# Altium integrated library Altera MAX V.IntLib: 184 symbols (part 2 of 16)
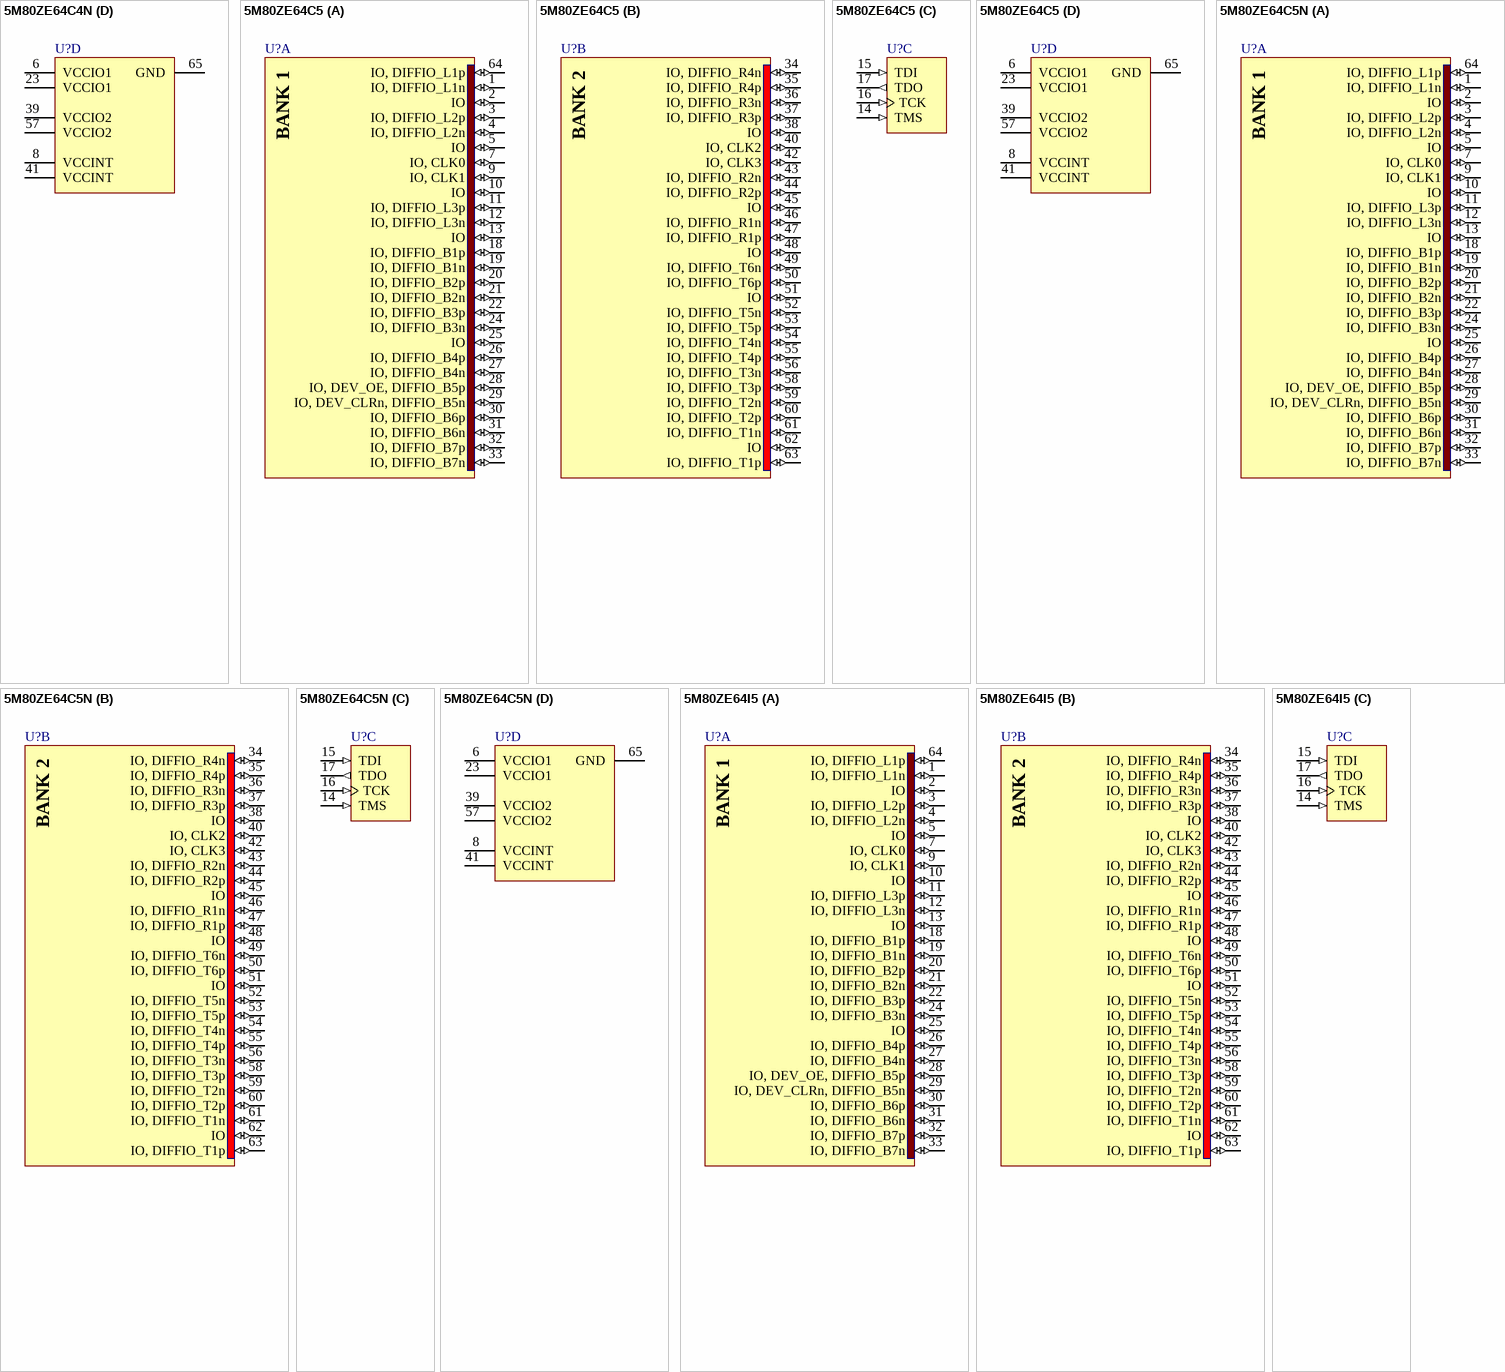
[diagram p78: symbols 5M80ZE64C4N to 5M80ZE64I5]

## 5M80ZE64C5
designator U?
MAX V 1.8V CPLD, 54 IOs, 80 Logic Elements, 64-Pin EQFP, Commercial Temperature, Speed Grade 5; DatasheetVersion: ver1.2, May-2011; PackageVersion: ver1.0, Jul-2011; PackageReference: EQFP64_A-120_D2-45; PackageDescription: 64-Pin Plastic Enhanced Quad Flat (EQFP) - Wire Bond - A:1.20 - D2:4.5; Code_JEDEC: MS-026-ABD-HD; ComponentLink1Description: Manufacturer URL; ComponentLink1URL: http://www.altera.com/; ComponentLink2Description: Datasheet; ComponentLink2URL: http://www.altera.com/literature/hb/max-v/max5_handbook.pdf; ComponentLink3Description: MAX V Device Pin-Out files; ComponentLink3URL: http://www.altera.com/literature/lit-dp.jsp?category=MAX%205&showspreadsheet=y; ComponentLink4Description: Package Specification; ComponentLink4URL: http://www.altera.com/devicepackaging/04R00384-01.pdf
footprint EQFP64_A-120_D2-45_N (Thin QFP, 64-Leads, Body 7x7mm, Pitch 0.4mm, Thermal Pad, IPC Medium Density)
footprint EQFP64_A-120_D2-45_L (Thin QFP, 64-Leads, Body 7x7mm, Pitch 0.4mm, Thermal Pad, IPC High Density)
footprint EQFP64_A-120_D2-45_M (Thin QFP, 64-Leads, Body 7x7mm, Pitch 0.4mm, Thermal Pad, IPC Low Density)
part A pins: 1 IO, DIFFIO_L1n (io), 2 IO (io), 3 IO, DIFFIO_L2p (io), 4 IO, DIFFIO_L2n (io), 5 IO (io), 7 IO, CLK0 (io), 9 IO, CLK1 (io), 10 IO (io), 11 IO, DIFFIO_L3p (io), 12 IO, DIFFIO_L3n (io), 13 IO (io), 18 IO, DIFFIO_B1p (io), 19 IO, DIFFIO_B1n (io), 20 IO, DIFFIO_B2p (io), 21 IO, DIFFIO_B2n (io), 22 IO, DIFFIO_B3p (io), 24 IO, DIFFIO_B3n (io), 25 IO (io), 26 IO, DIFFIO_B4p (io), 27 IO, DIFFIO_B4n (io), 28 IO, DEV_OE, DIFFIO_B5p (io), 29 IO, DEV_CLRn, DIFFIO_B5n (io), 30 IO, DIFFIO_B6p (io), 31 IO, DIFFIO_B6n (io), 32 IO, DIFFIO_B7p (io), 33 IO, DIFFIO_B7n (io), 64 IO, DIFFIO_L1p (io)
part B pins: 34 IO, DIFFIO_R4n (io), 35 IO, DIFFIO_R4p (io), 36 IO, DIFFIO_R3n (io), 37 IO, DIFFIO_R3p (io), 38 IO (io), 40 IO, CLK2 (io), 42 IO, CLK3 (io), 43 IO, DIFFIO_R2n (io), 44 IO, DIFFIO_R2p (io), 45 IO (io), 46 IO, DIFFIO_R1n (io), 47 IO, DIFFIO_R1p (io), 48 IO (io), 49 IO, DIFFIO_T6n (io), 50 IO, DIFFIO_T6p (io), 51 IO (io), 52 IO, DIFFIO_T5n (io), 53 IO, DIFFIO_T5p (io), 54 IO, DIFFIO_T4n (io), 55 IO, DIFFIO_T4p (io), 56 IO, DIFFIO_T3n (io), 58 IO, DIFFIO_T3p (io), 59 IO, DIFFIO_T2n (io), 60 IO, DIFFIO_T2p (io), 61 IO, DIFFIO_T1n (io), 62 IO (io), 63 IO, DIFFIO_T1p (io)
part C pins: 14 TMS (in), 15 TDI (in), 16 TCK (in), 17 TDO (out)
part D pins: 6 VCCIO1 (power), 8 VCCINT (power), 23 VCCIO1 (power), 39 VCCIO2 (power), 41 VCCINT (power), 57 VCCIO2 (power), 65 GND (power)
part A text: BANK 1
part B text: BANK 2

## 5M80ZE64C5N
designator U?
MAX V 1.8V CPLD, 54 IOs, 80 Logic Elements, 64-Pin EQFP, Commercial Temperature, Speed Grade 5, Pb-Free; DatasheetVersion: ver1.2, May-2011; PackageVersion: ver1.0, Jul-2011; PackageReference: EQFP64_A-120_D2-45; PackageDescription: 64-Pin Plastic Enhanced Quad Flat (EQFP) - Wire Bond - A:1.20 - D2:4.5; Code_JEDEC: MS-026-ABD-HD; ComponentLink1Description: Manufacturer URL; ComponentLink1URL: http://www.altera.com/; ComponentLink2Description: Datasheet; ComponentLink2URL: http://www.altera.com/literature/hb/max-v/max5_handbook.pdf; ComponentLink3Description: MAX V Device Pin-Out files; ComponentLink3URL: http://www.altera.com/literature/lit-dp.jsp?category=MAX%205&showspreadsheet=y; ComponentLink4Description: Package Specification; ComponentLink4URL: http://www.altera.com/devicepackaging/04R00384-01.pdf
footprint EQFP64_A-120_D2-45_N (Thin QFP, 64-Leads, Body 7x7mm, Pitch 0.4mm, Thermal Pad, IPC Medium Density)
footprint EQFP64_A-120_D2-45_L (Thin QFP, 64-Leads, Body 7x7mm, Pitch 0.4mm, Thermal Pad, IPC High Density)
footprint EQFP64_A-120_D2-45_M (Thin QFP, 64-Leads, Body 7x7mm, Pitch 0.4mm, Thermal Pad, IPC Low Density)
part A pins: 1 IO, DIFFIO_L1n (io), 2 IO (io), 3 IO, DIFFIO_L2p (io), 4 IO, DIFFIO_L2n (io), 5 IO (io), 7 IO, CLK0 (io), 9 IO, CLK1 (io), 10 IO (io), 11 IO, DIFFIO_L3p (io), 12 IO, DIFFIO_L3n (io), 13 IO (io), 18 IO, DIFFIO_B1p (io), 19 IO, DIFFIO_B1n (io), 20 IO, DIFFIO_B2p (io), 21 IO, DIFFIO_B2n (io), 22 IO, DIFFIO_B3p (io), 24 IO, DIFFIO_B3n (io), 25 IO (io), 26 IO, DIFFIO_B4p (io), 27 IO, DIFFIO_B4n (io), 28 IO, DEV_OE, DIFFIO_B5p (io), 29 IO, DEV_CLRn, DIFFIO_B5n (io), 30 IO, DIFFIO_B6p (io), 31 IO, DIFFIO_B6n (io), 32 IO, DIFFIO_B7p (io), 33 IO, DIFFIO_B7n (io), 64 IO, DIFFIO_L1p (io)
part B pins: 34 IO, DIFFIO_R4n (io), 35 IO, DIFFIO_R4p (io), 36 IO, DIFFIO_R3n (io), 37 IO, DIFFIO_R3p (io), 38 IO (io), 40 IO, CLK2 (io), 42 IO, CLK3 (io), 43 IO, DIFFIO_R2n (io), 44 IO, DIFFIO_R2p (io), 45 IO (io), 46 IO, DIFFIO_R1n (io), 47 IO, DIFFIO_R1p (io), 48 IO (io), 49 IO, DIFFIO_T6n (io), 50 IO, DIFFIO_T6p (io), 51 IO (io), 52 IO, DIFFIO_T5n (io), 53 IO, DIFFIO_T5p (io), 54 IO, DIFFIO_T4n (io), 55 IO, DIFFIO_T4p (io), 56 IO, DIFFIO_T3n (io), 58 IO, DIFFIO_T3p (io), 59 IO, DIFFIO_T2n (io), 60 IO, DIFFIO_T2p (io), 61 IO, DIFFIO_T1n (io), 62 IO (io), 63 IO, DIFFIO_T1p (io)
part C pins: 14 TMS (in), 15 TDI (in), 16 TCK (in), 17 TDO (out)
part D pins: 6 VCCIO1 (power), 8 VCCINT (power), 23 VCCIO1 (power), 39 VCCIO2 (power), 41 VCCINT (power), 57 VCCIO2 (power), 65 GND (power)
part A text: BANK 1
part B text: BANK 2

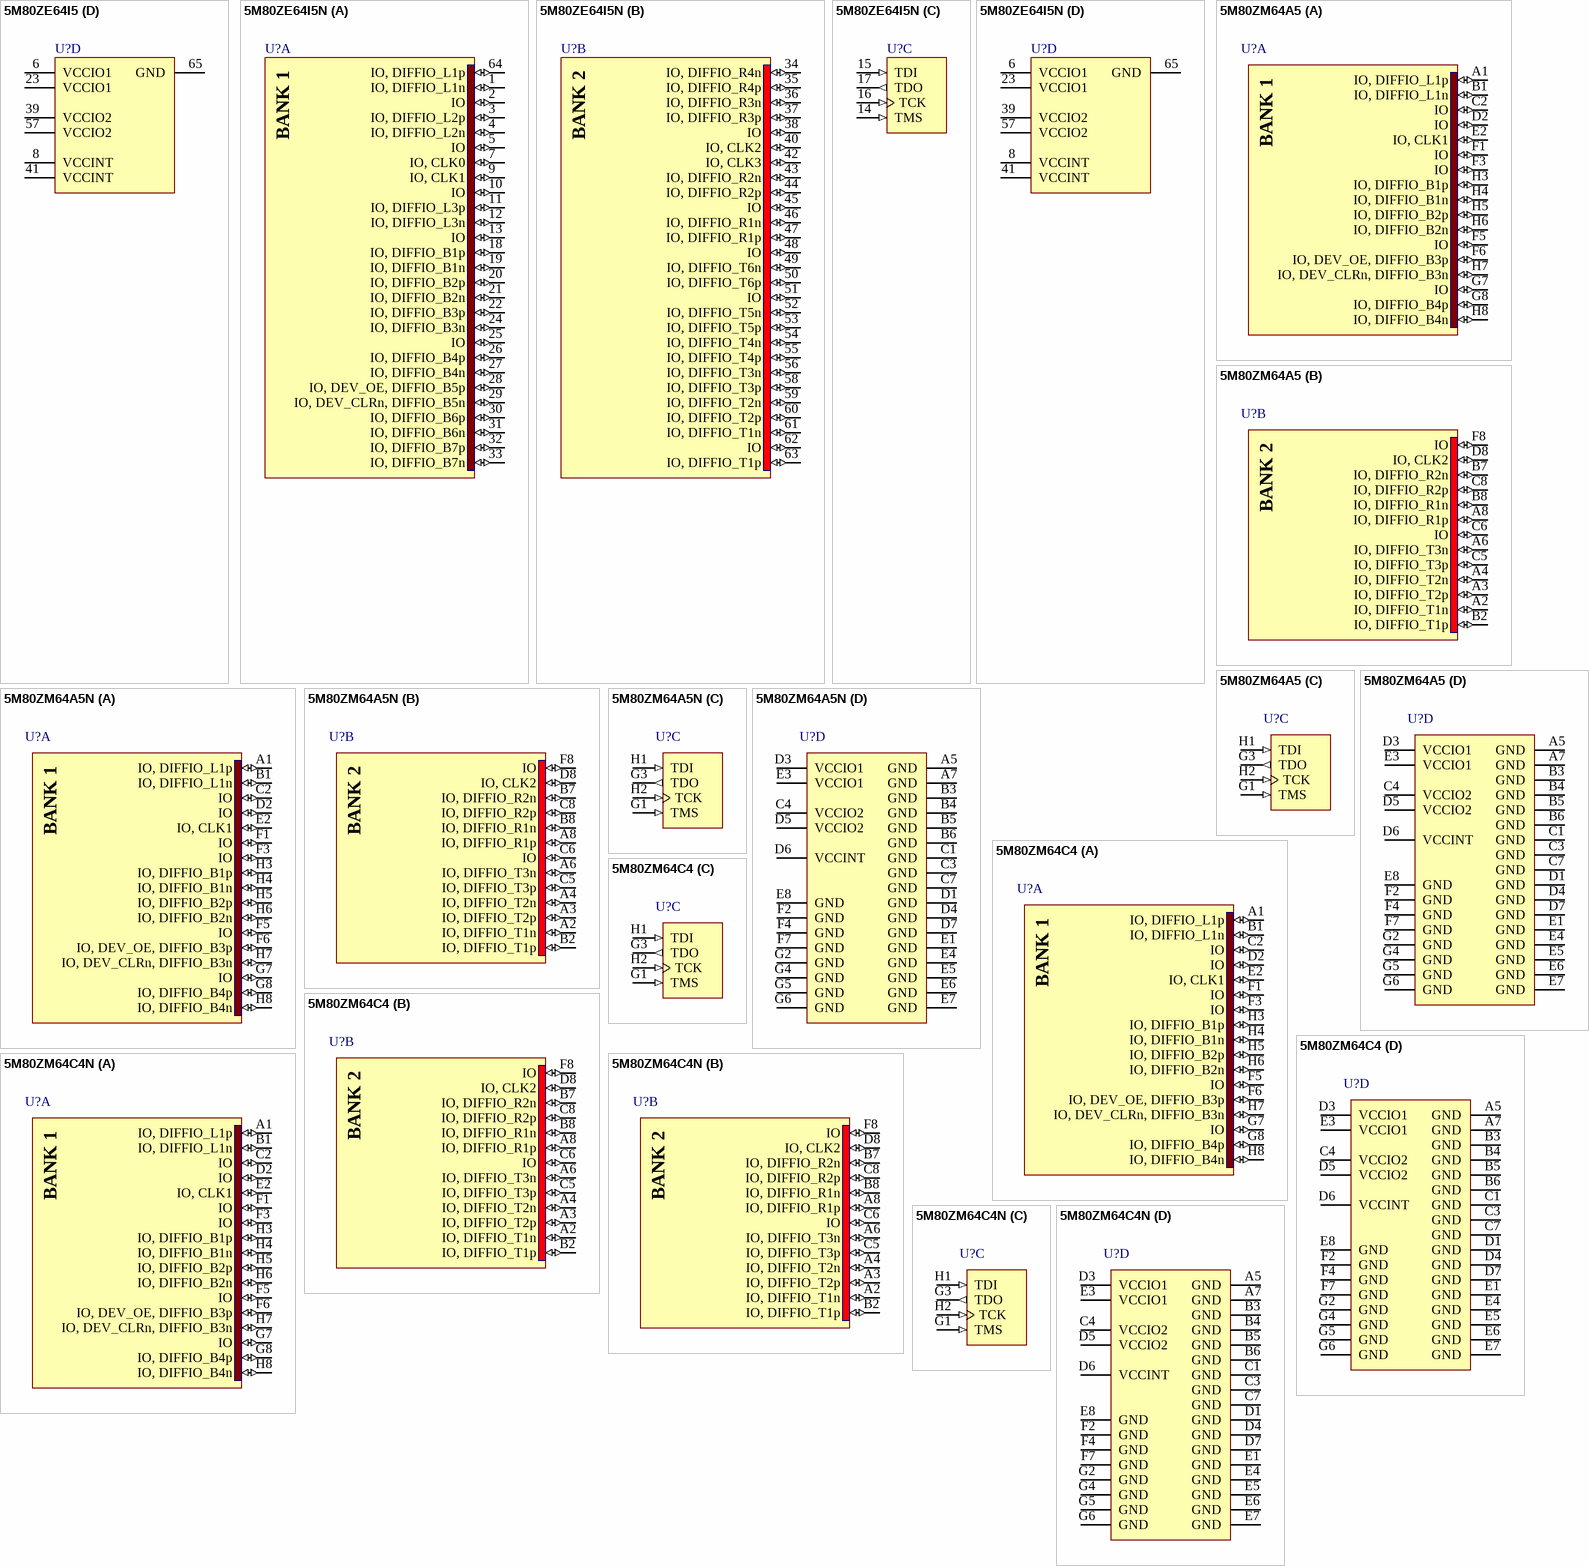
[diagram p5: symbols 5M80ZE64I5 to 5M80ZM64C4N]

## 5M80ZE64I5
designator U?
MAX V 1.8V CPLD, 54 IOs, 80 Logic Elements, 64-Pin EQFP, Industrial Temperature, Speed Grade 5; DatasheetVersion: ver1.2, May-2011; PackageVersion: ver1.0, Jul-2011; PackageReference: EQFP64_A-120_D2-45; PackageDescription: 64-Pin Plastic Enhanced Quad Flat (EQFP) - Wire Bond - A:1.20 - D2:4.5; Code_JEDEC: MS-026-ABD-HD; ComponentLink1Description: Manufacturer URL; ComponentLink1URL: http://www.altera.com/; ComponentLink2Description: Datasheet; ComponentLink2URL: http://www.altera.com/literature/hb/max-v/max5_handbook.pdf; ComponentLink3Description: MAX V Device Pin-Out files; ComponentLink3URL: http://www.altera.com/literature/lit-dp.jsp?category=MAX%205&showspreadsheet=y; ComponentLink4Description: Package Specification; ComponentLink4URL: http://www.altera.com/devicepackaging/04R00384-01.pdf
footprint EQFP64_A-120_D2-45_N (Thin QFP, 64-Leads, Body 7x7mm, Pitch 0.4mm, Thermal Pad, IPC Medium Density)
footprint EQFP64_A-120_D2-45_L (Thin QFP, 64-Leads, Body 7x7mm, Pitch 0.4mm, Thermal Pad, IPC High Density)
footprint EQFP64_A-120_D2-45_M (Thin QFP, 64-Leads, Body 7x7mm, Pitch 0.4mm, Thermal Pad, IPC Low Density)
part A pins: 1 IO, DIFFIO_L1n (io), 2 IO (io), 3 IO, DIFFIO_L2p (io), 4 IO, DIFFIO_L2n (io), 5 IO (io), 7 IO, CLK0 (io), 9 IO, CLK1 (io), 10 IO (io), 11 IO, DIFFIO_L3p (io), 12 IO, DIFFIO_L3n (io), 13 IO (io), 18 IO, DIFFIO_B1p (io), 19 IO, DIFFIO_B1n (io), 20 IO, DIFFIO_B2p (io), 21 IO, DIFFIO_B2n (io), 22 IO, DIFFIO_B3p (io), 24 IO, DIFFIO_B3n (io), 25 IO (io), 26 IO, DIFFIO_B4p (io), 27 IO, DIFFIO_B4n (io), 28 IO, DEV_OE, DIFFIO_B5p (io), 29 IO, DEV_CLRn, DIFFIO_B5n (io), 30 IO, DIFFIO_B6p (io), 31 IO, DIFFIO_B6n (io), 32 IO, DIFFIO_B7p (io), 33 IO, DIFFIO_B7n (io), 64 IO, DIFFIO_L1p (io)
part B pins: 34 IO, DIFFIO_R4n (io), 35 IO, DIFFIO_R4p (io), 36 IO, DIFFIO_R3n (io), 37 IO, DIFFIO_R3p (io), 38 IO (io), 40 IO, CLK2 (io), 42 IO, CLK3 (io), 43 IO, DIFFIO_R2n (io), 44 IO, DIFFIO_R2p (io), 45 IO (io), 46 IO, DIFFIO_R1n (io), 47 IO, DIFFIO_R1p (io), 48 IO (io), 49 IO, DIFFIO_T6n (io), 50 IO, DIFFIO_T6p (io), 51 IO (io), 52 IO, DIFFIO_T5n (io), 53 IO, DIFFIO_T5p (io), 54 IO, DIFFIO_T4n (io), 55 IO, DIFFIO_T4p (io), 56 IO, DIFFIO_T3n (io), 58 IO, DIFFIO_T3p (io), 59 IO, DIFFIO_T2n (io), 60 IO, DIFFIO_T2p (io), 61 IO, DIFFIO_T1n (io), 62 IO (io), 63 IO, DIFFIO_T1p (io)
part C pins: 14 TMS (in), 15 TDI (in), 16 TCK (in), 17 TDO (out)
part D pins: 6 VCCIO1 (power), 8 VCCINT (power), 23 VCCIO1 (power), 39 VCCIO2 (power), 41 VCCINT (power), 57 VCCIO2 (power), 65 GND (power)
part A text: BANK 1
part B text: BANK 2

## 5M80ZE64I5N
designator U?
MAX V 1.8V CPLD, 54 IOs, 80 Logic Elements, 64-Pin EQFP, Industrial Temperature, Speed Grade 5, Pb-Free; DatasheetVersion: ver1.2, May-2011; PackageVersion: ver1.0, Jul-2011; PackageReference: EQFP64_A-120_D2-45; PackageDescription: 64-Pin Plastic Enhanced Quad Flat (EQFP) - Wire Bond - A:1.20 - D2:4.5; Code_JEDEC: MS-026-ABD-HD; ComponentLink1Description: Manufacturer URL; ComponentLink1URL: http://www.altera.com/; ComponentLink2Description: Datasheet; ComponentLink2URL: http://www.altera.com/literature/hb/max-v/max5_handbook.pdf; ComponentLink3Description: MAX V Device Pin-Out files; ComponentLink3URL: http://www.altera.com/literature/lit-dp.jsp?category=MAX%205&showspreadsheet=y; ComponentLink4Description: Package Specification; ComponentLink4URL: http://www.altera.com/devicepackaging/04R00384-01.pdf
footprint EQFP64_A-120_D2-45_N (Thin QFP, 64-Leads, Body 7x7mm, Pitch 0.4mm, Thermal Pad, IPC Medium Density)
footprint EQFP64_A-120_D2-45_L (Thin QFP, 64-Leads, Body 7x7mm, Pitch 0.4mm, Thermal Pad, IPC High Density)
footprint EQFP64_A-120_D2-45_M (Thin QFP, 64-Leads, Body 7x7mm, Pitch 0.4mm, Thermal Pad, IPC Low Density)
part A pins: 1 IO, DIFFIO_L1n (io), 2 IO (io), 3 IO, DIFFIO_L2p (io), 4 IO, DIFFIO_L2n (io), 5 IO (io), 7 IO, CLK0 (io), 9 IO, CLK1 (io), 10 IO (io), 11 IO, DIFFIO_L3p (io), 12 IO, DIFFIO_L3n (io), 13 IO (io), 18 IO, DIFFIO_B1p (io), 19 IO, DIFFIO_B1n (io), 20 IO, DIFFIO_B2p (io), 21 IO, DIFFIO_B2n (io), 22 IO, DIFFIO_B3p (io), 24 IO, DIFFIO_B3n (io), 25 IO (io), 26 IO, DIFFIO_B4p (io), 27 IO, DIFFIO_B4n (io), 28 IO, DEV_OE, DIFFIO_B5p (io), 29 IO, DEV_CLRn, DIFFIO_B5n (io), 30 IO, DIFFIO_B6p (io), 31 IO, DIFFIO_B6n (io), 32 IO, DIFFIO_B7p (io), 33 IO, DIFFIO_B7n (io), 64 IO, DIFFIO_L1p (io)
part B pins: 34 IO, DIFFIO_R4n (io), 35 IO, DIFFIO_R4p (io), 36 IO, DIFFIO_R3n (io), 37 IO, DIFFIO_R3p (io), 38 IO (io), 40 IO, CLK2 (io), 42 IO, CLK3 (io), 43 IO, DIFFIO_R2n (io), 44 IO, DIFFIO_R2p (io), 45 IO (io), 46 IO, DIFFIO_R1n (io), 47 IO, DIFFIO_R1p (io), 48 IO (io), 49 IO, DIFFIO_T6n (io), 50 IO, DIFFIO_T6p (io), 51 IO (io), 52 IO, DIFFIO_T5n (io), 53 IO, DIFFIO_T5p (io), 54 IO, DIFFIO_T4n (io), 55 IO, DIFFIO_T4p (io), 56 IO, DIFFIO_T3n (io), 58 IO, DIFFIO_T3p (io), 59 IO, DIFFIO_T2n (io), 60 IO, DIFFIO_T2p (io), 61 IO, DIFFIO_T1n (io), 62 IO (io), 63 IO, DIFFIO_T1p (io)
part C pins: 14 TMS (in), 15 TDI (in), 16 TCK (in), 17 TDO (out)
part D pins: 6 VCCIO1 (power), 8 VCCINT (power), 23 VCCIO1 (power), 39 VCCIO2 (power), 41 VCCINT (power), 57 VCCIO2 (power), 65 GND (power)
part A text: BANK 1
part B text: BANK 2

## 5M80ZM64A5
designator U?
MAX V 1.8V CPLD, 30 IOs, 80 Logic Elements, 64-Pin MBGA, Automotive Temperature, Speed Grade 5; DatasheetVersion: ver1.2, May-2011; PackageVersion: ver1.0, Jul-2011; PackageReference: MBGA64_A-120; PackageDescription: 64-Pin Micro FineLine Ball-Grid Array (MBGA) - Wire Bond - A:1.20; Code_JEDEC: MO-195-BX; ComponentLink1Description: Manufacturer URL; ComponentLink1URL: http://www.altera.com/; ComponentLink2Description: Datasheet; ComponentLink2URL: http://www.altera.com/literature/hb/max-v/max5_handbook.pdf; ComponentLink3Description: MAX V Device Pin-Out files; ComponentLink3URL: http://www.altera.com/literature/lit-dp.jsp?category=MAX%205&showspreadsheet=y; ComponentLink4Description: Package Specification; ComponentLink4URL: http://www.altera.com/devicepackaging/04R00385-01.pdf
footprint MBGA64_A-120 (BGA, 64-Leads, Body 4.5x4.5mm, Pitch 0.5mm, Non-Solder Mask Defined Pads)
part A pins: A1 IO, DIFFIO_L1p (io), B1 IO, DIFFIO_L1n (io), C2 IO (io), D2 IO (io), E2 IO, CLK1 (io), F1 IO (io), F3 IO (io), F5 IO (io), F6 IO, DEV_OE, DIFFIO_B3p (io), G7 IO (io), G8 IO, DIFFIO_B4p (io), H3 IO, DIFFIO_B1p (io), H4 IO, DIFFIO_B1n (io), H5 IO, DIFFIO_B2p (io), H6 IO, DIFFIO_B2n (io), H7 IO, DEV_CLRn, DIFFIO_B3n (io), H8 IO, DIFFIO_B4n (io)
part B pins: A2 IO, DIFFIO_T1n (io), A3 IO, DIFFIO_T2p (io), A4 IO, DIFFIO_T2n (io), A6 IO, DIFFIO_T3n (io), A8 IO, DIFFIO_R1p (io), B2 IO, DIFFIO_T1p (io), B7 IO, DIFFIO_R2n (io), B8 IO, DIFFIO_R1n (io), C5 IO, DIFFIO_T3p (io), C6 IO (io), C8 IO, DIFFIO_R2p (io), D8 IO, CLK2 (io), F8 IO (io)
part C pins: G1 TMS (in), G3 TDO (out), H1 TDI (in), H2 TCK (in)
part D pins: A5 GND (power), A7 GND (power), B3 GND (power), B4 GND (power), B5 GND (power), B6 GND (power), C1 GND (power), C3 GND (power), C4 VCCIO2 (power), C7 GND (power), D1 GND (power), D3 VCCIO1 (power), D4 GND (power), D5 VCCIO2 (power), D6 VCCINT (power), D7 GND (power), E1 GND (power), E3 VCCIO1 (power), E4 GND (power), E5 GND (power), E6 GND (power), E7 GND (power), E8 GND (power), F2 GND (power), F4 GND (power), F7 GND (power), G2 GND (power), G4 GND (power), G5 GND (power), G6 GND (power)
part A text: BANK 1
part B text: BANK 2

## 5M80ZM64A5N
designator U?
MAX V 1.8V CPLD, 30 IOs, 80 Logic Elements, 64-Pin MBGA, Automotive Temperature, Speed Grade 5, Pb-Free; DatasheetVersion: ver1.2, May-2011; PackageVersion: ver1.0, Jul-2011; PackageReference: MBGA64_A-120; PackageDescription: 64-Pin Micro FineLine Ball-Grid Array (MBGA) - Wire Bond - A:1.20; Code_JEDEC: MO-195-BX; ComponentLink1Description: Manufacturer URL; ComponentLink1URL: http://www.altera.com/; ComponentLink2Description: Datasheet; ComponentLink2URL: http://www.altera.com/literature/hb/max-v/max5_handbook.pdf; ComponentLink3Description: MAX V Device Pin-Out files; ComponentLink3URL: http://www.altera.com/literature/lit-dp.jsp?category=MAX%205&showspreadsheet=y; ComponentLink4Description: Package Specification; ComponentLink4URL: http://www.altera.com/devicepackaging/04R00385-01.pdf
footprint MBGA64_A-120 (BGA, 64-Leads, Body 4.5x4.5mm, Pitch 0.5mm, Non-Solder Mask Defined Pads)
part A pins: A1 IO, DIFFIO_L1p (io), B1 IO, DIFFIO_L1n (io), C2 IO (io), D2 IO (io), E2 IO, CLK1 (io), F1 IO (io), F3 IO (io), F5 IO (io), F6 IO, DEV_OE, DIFFIO_B3p (io), G7 IO (io), G8 IO, DIFFIO_B4p (io), H3 IO, DIFFIO_B1p (io), H4 IO, DIFFIO_B1n (io), H5 IO, DIFFIO_B2p (io), H6 IO, DIFFIO_B2n (io), H7 IO, DEV_CLRn, DIFFIO_B3n (io), H8 IO, DIFFIO_B4n (io)
part B pins: A2 IO, DIFFIO_T1n (io), A3 IO, DIFFIO_T2p (io), A4 IO, DIFFIO_T2n (io), A6 IO, DIFFIO_T3n (io), A8 IO, DIFFIO_R1p (io), B2 IO, DIFFIO_T1p (io), B7 IO, DIFFIO_R2n (io), B8 IO, DIFFIO_R1n (io), C5 IO, DIFFIO_T3p (io), C6 IO (io), C8 IO, DIFFIO_R2p (io), D8 IO, CLK2 (io), F8 IO (io)
part C pins: G1 TMS (in), G3 TDO (out), H1 TDI (in), H2 TCK (in)
part D pins: A5 GND (power), A7 GND (power), B3 GND (power), B4 GND (power), B5 GND (power), B6 GND (power), C1 GND (power), C3 GND (power), C4 VCCIO2 (power), C7 GND (power), D1 GND (power), D3 VCCIO1 (power), D4 GND (power), D5 VCCIO2 (power), D6 VCCINT (power), D7 GND (power), E1 GND (power), E3 VCCIO1 (power), E4 GND (power), E5 GND (power), E6 GND (power), E7 GND (power), E8 GND (power), F2 GND (power), F4 GND (power), F7 GND (power), G2 GND (power), G4 GND (power), G5 GND (power), G6 GND (power)
part A text: BANK 1
part B text: BANK 2

## 5M80ZM64C4
designator U?
MAX V 1.8V CPLD, 30 IOs, 80 Logic Elements, 64-Pin MBGA, Commercial Temperature, Speed Grade 4; DatasheetVersion: ver1.2, May-2011; PackageVersion: ver1.0, Jul-2011; PackageReference: MBGA64_A-120; PackageDescription: 64-Pin Micro FineLine Ball-Grid Array (MBGA) - Wire Bond - A:1.20; Code_JEDEC: MO-195-BX; ComponentLink1Description: Manufacturer URL; ComponentLink1URL: http://www.altera.com/; ComponentLink2Description: Datasheet; ComponentLink2URL: http://www.altera.com/literature/hb/max-v/max5_handbook.pdf; ComponentLink3Description: MAX V Device Pin-Out files; ComponentLink3URL: http://www.altera.com/literature/lit-dp.jsp?category=MAX%205&showspreadsheet=y; ComponentLink4Description: Package Specification; ComponentLink4URL: http://www.altera.com/devicepackaging/04R00385-01.pdf
footprint MBGA64_A-120 (BGA, 64-Leads, Body 4.5x4.5mm, Pitch 0.5mm, Non-Solder Mask Defined Pads)
part A pins: A1 IO, DIFFIO_L1p (io), B1 IO, DIFFIO_L1n (io), C2 IO (io), D2 IO (io), E2 IO, CLK1 (io), F1 IO (io), F3 IO (io), F5 IO (io), F6 IO, DEV_OE, DIFFIO_B3p (io), G7 IO (io), G8 IO, DIFFIO_B4p (io), H3 IO, DIFFIO_B1p (io), H4 IO, DIFFIO_B1n (io), H5 IO, DIFFIO_B2p (io), H6 IO, DIFFIO_B2n (io), H7 IO, DEV_CLRn, DIFFIO_B3n (io), H8 IO, DIFFIO_B4n (io)
part B pins: A2 IO, DIFFIO_T1n (io), A3 IO, DIFFIO_T2p (io), A4 IO, DIFFIO_T2n (io), A6 IO, DIFFIO_T3n (io), A8 IO, DIFFIO_R1p (io), B2 IO, DIFFIO_T1p (io), B7 IO, DIFFIO_R2n (io), B8 IO, DIFFIO_R1n (io), C5 IO, DIFFIO_T3p (io), C6 IO (io), C8 IO, DIFFIO_R2p (io), D8 IO, CLK2 (io), F8 IO (io)
part C pins: G1 TMS (in), G3 TDO (out), H1 TDI (in), H2 TCK (in)
part D pins: A5 GND (power), A7 GND (power), B3 GND (power), B4 GND (power), B5 GND (power), B6 GND (power), C1 GND (power), C3 GND (power), C4 VCCIO2 (power), C7 GND (power), D1 GND (power), D3 VCCIO1 (power), D4 GND (power), D5 VCCIO2 (power), D6 VCCINT (power), D7 GND (power), E1 GND (power), E3 VCCIO1 (power), E4 GND (power), E5 GND (power), E6 GND (power), E7 GND (power), E8 GND (power), F2 GND (power), F4 GND (power), F7 GND (power), G2 GND (power), G4 GND (power), G5 GND (power), G6 GND (power)
part A text: BANK 1
part B text: BANK 2

## 5M80ZM64C4N
designator U?
MAX V 1.8V CPLD, 30 IOs, 80 Logic Elements, 64-Pin MBGA, Commercial Temperature, Speed Grade 4, Pb-Free; DatasheetVersion: ver1.2, May-2011; PackageVersion: ver1.0, Jul-2011; PackageReference: MBGA64_A-120; PackageDescription: 64-Pin Micro FineLine Ball-Grid Array (MBGA) - Wire Bond - A:1.20; Code_JEDEC: MO-195-BX; ComponentLink1Description: Manufacturer URL; ComponentLink1URL: http://www.altera.com/; ComponentLink2Description: Datasheet; ComponentLink2URL: http://www.altera.com/literature/hb/max-v/max5_handbook.pdf; ComponentLink3Description: MAX V Device Pin-Out files; ComponentLink3URL: http://www.altera.com/literature/lit-dp.jsp?category=MAX%205&showspreadsheet=y; ComponentLink4Description: Package Specification; ComponentLink4URL: http://www.altera.com/devicepackaging/04R00385-01.pdf
footprint MBGA64_A-120 (BGA, 64-Leads, Body 4.5x4.5mm, Pitch 0.5mm, Non-Solder Mask Defined Pads)
part A pins: A1 IO, DIFFIO_L1p (io), B1 IO, DIFFIO_L1n (io), C2 IO (io), D2 IO (io), E2 IO, CLK1 (io), F1 IO (io), F3 IO (io), F5 IO (io), F6 IO, DEV_OE, DIFFIO_B3p (io), G7 IO (io), G8 IO, DIFFIO_B4p (io), H3 IO, DIFFIO_B1p (io), H4 IO, DIFFIO_B1n (io), H5 IO, DIFFIO_B2p (io), H6 IO, DIFFIO_B2n (io), H7 IO, DEV_CLRn, DIFFIO_B3n (io), H8 IO, DIFFIO_B4n (io)
part B pins: A2 IO, DIFFIO_T1n (io), A3 IO, DIFFIO_T2p (io), A4 IO, DIFFIO_T2n (io), A6 IO, DIFFIO_T3n (io), A8 IO, DIFFIO_R1p (io), B2 IO, DIFFIO_T1p (io), B7 IO, DIFFIO_R2n (io), B8 IO, DIFFIO_R1n (io), C5 IO, DIFFIO_T3p (io), C6 IO (io), C8 IO, DIFFIO_R2p (io), D8 IO, CLK2 (io), F8 IO (io)
part C pins: G1 TMS (in), G3 TDO (out), H1 TDI (in), H2 TCK (in)
part D pins: A5 GND (power), A7 GND (power), B3 GND (power), B4 GND (power), B5 GND (power), B6 GND (power), C1 GND (power), C3 GND (power), C4 VCCIO2 (power), C7 GND (power), D1 GND (power), D3 VCCIO1 (power), D4 GND (power), D5 VCCIO2 (power), D6 VCCINT (power), D7 GND (power), E1 GND (power), E3 VCCIO1 (power), E4 GND (power), E5 GND (power), E6 GND (power), E7 GND (power), E8 GND (power), F2 GND (power), F4 GND (power), F7 GND (power), G2 GND (power), G4 GND (power), G5 GND (power), G6 GND (power)
part A text: BANK 1
part B text: BANK 2

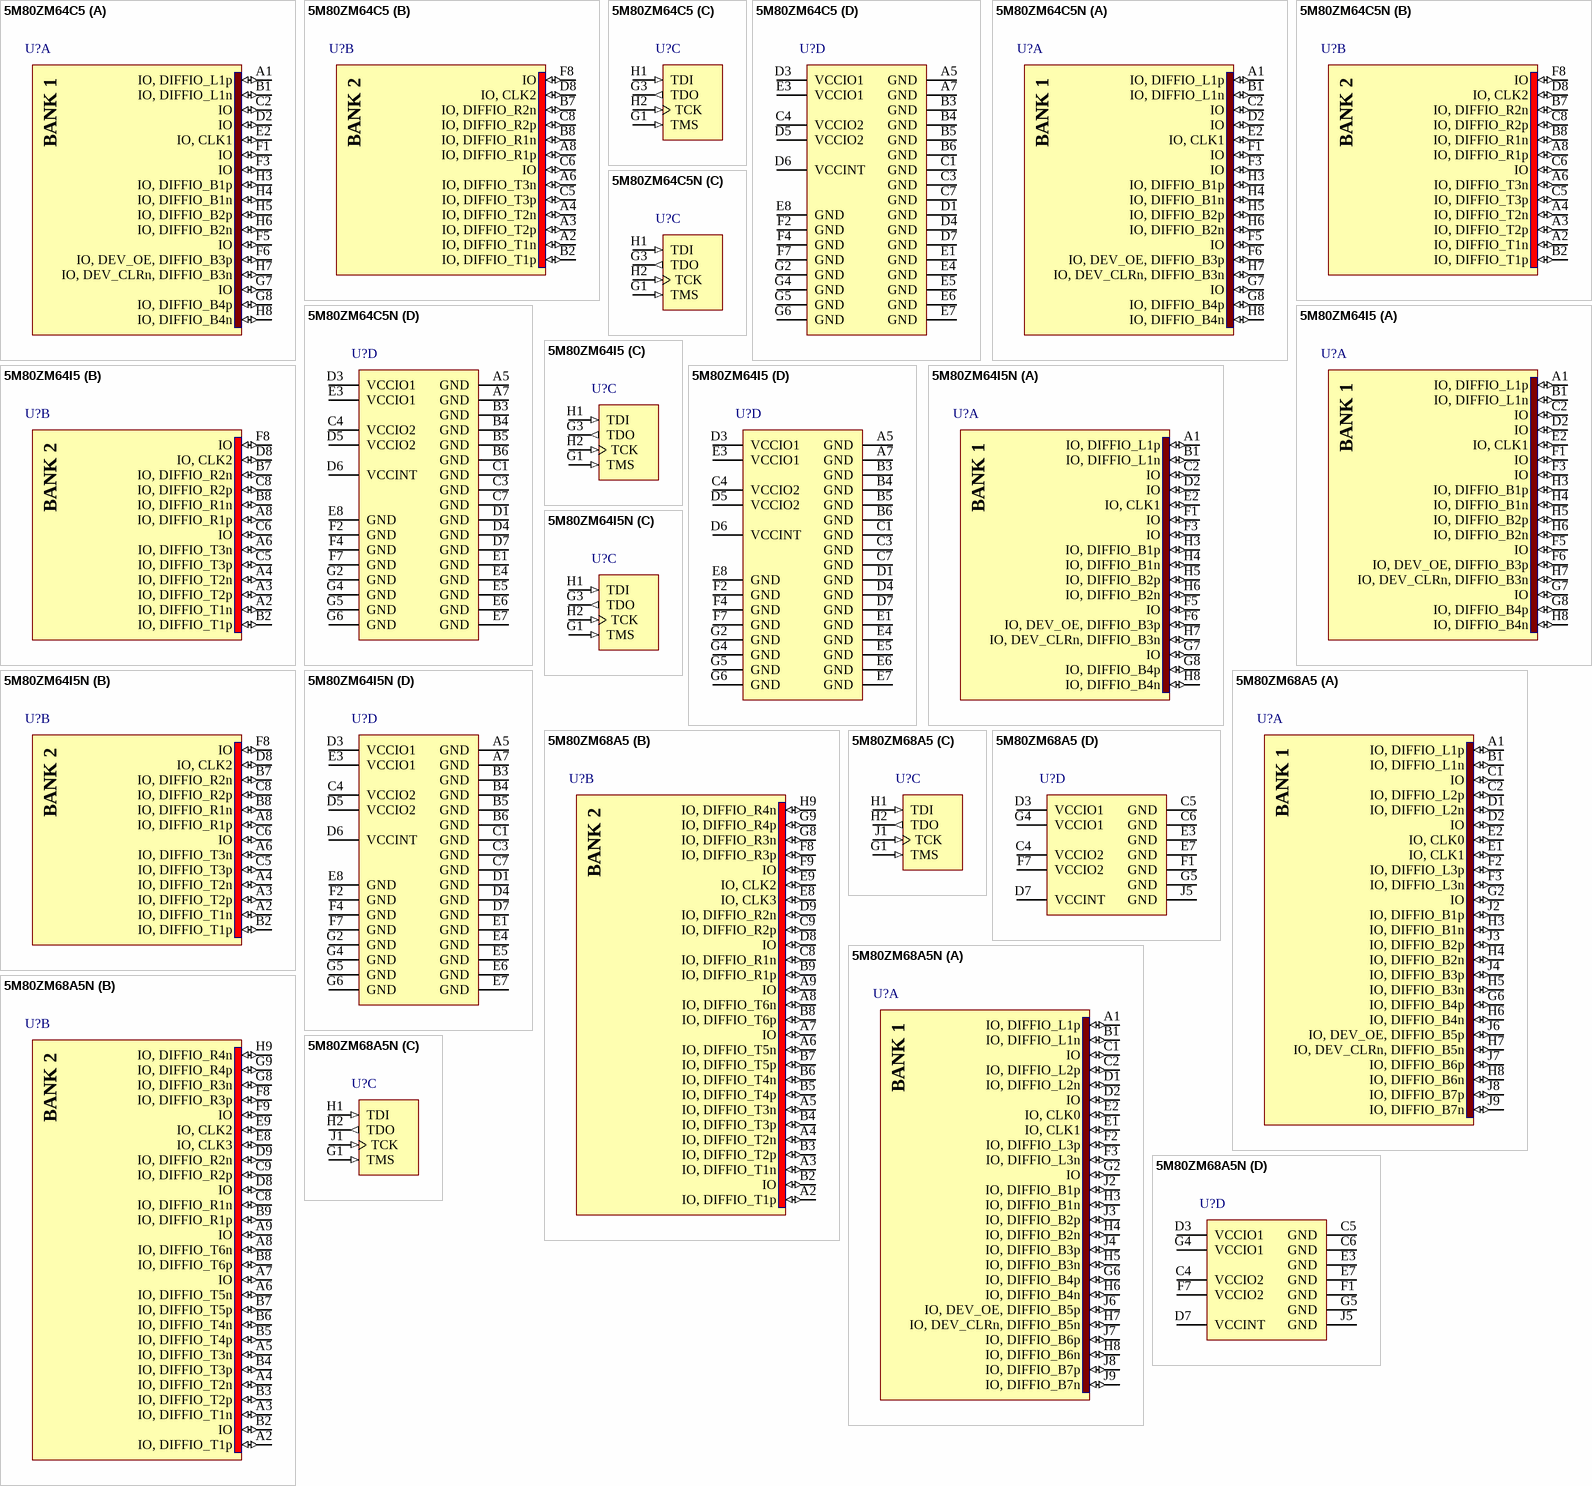
[diagram p6: symbols 5M80ZM64C5 to 5M80ZM68A5N]

## 5M80ZM64C5
designator U?
MAX V 1.8V CPLD, 30 IOs, 80 Logic Elements, 64-Pin MBGA, Commercial Temperature, Speed Grade 5; DatasheetVersion: ver1.2, May-2011; PackageVersion: ver1.0, Jul-2011; PackageReference: MBGA64_A-120; PackageDescription: 64-Pin Micro FineLine Ball-Grid Array (MBGA) - Wire Bond - A:1.20; Code_JEDEC: MO-195-BX; ComponentLink1Description: Manufacturer URL; ComponentLink1URL: http://www.altera.com/; ComponentLink2Description: Datasheet; ComponentLink2URL: http://www.altera.com/literature/hb/max-v/max5_handbook.pdf; ComponentLink3Description: MAX V Device Pin-Out files; ComponentLink3URL: http://www.altera.com/literature/lit-dp.jsp?category=MAX%205&showspreadsheet=y; ComponentLink4Description: Package Specification; ComponentLink4URL: http://www.altera.com/devicepackaging/04R00385-01.pdf
footprint MBGA64_A-120 (BGA, 64-Leads, Body 4.5x4.5mm, Pitch 0.5mm, Non-Solder Mask Defined Pads)
part A pins: A1 IO, DIFFIO_L1p (io), B1 IO, DIFFIO_L1n (io), C2 IO (io), D2 IO (io), E2 IO, CLK1 (io), F1 IO (io), F3 IO (io), F5 IO (io), F6 IO, DEV_OE, DIFFIO_B3p (io), G7 IO (io), G8 IO, DIFFIO_B4p (io), H3 IO, DIFFIO_B1p (io), H4 IO, DIFFIO_B1n (io), H5 IO, DIFFIO_B2p (io), H6 IO, DIFFIO_B2n (io), H7 IO, DEV_CLRn, DIFFIO_B3n (io), H8 IO, DIFFIO_B4n (io)
part B pins: A2 IO, DIFFIO_T1n (io), A3 IO, DIFFIO_T2p (io), A4 IO, DIFFIO_T2n (io), A6 IO, DIFFIO_T3n (io), A8 IO, DIFFIO_R1p (io), B2 IO, DIFFIO_T1p (io), B7 IO, DIFFIO_R2n (io), B8 IO, DIFFIO_R1n (io), C5 IO, DIFFIO_T3p (io), C6 IO (io), C8 IO, DIFFIO_R2p (io), D8 IO, CLK2 (io), F8 IO (io)
part C pins: G1 TMS (in), G3 TDO (out), H1 TDI (in), H2 TCK (in)
part D pins: A5 GND (power), A7 GND (power), B3 GND (power), B4 GND (power), B5 GND (power), B6 GND (power), C1 GND (power), C3 GND (power), C4 VCCIO2 (power), C7 GND (power), D1 GND (power), D3 VCCIO1 (power), D4 GND (power), D5 VCCIO2 (power), D6 VCCINT (power), D7 GND (power), E1 GND (power), E3 VCCIO1 (power), E4 GND (power), E5 GND (power), E6 GND (power), E7 GND (power), E8 GND (power), F2 GND (power), F4 GND (power), F7 GND (power), G2 GND (power), G4 GND (power), G5 GND (power), G6 GND (power)
part A text: BANK 1
part B text: BANK 2

## 5M80ZM64C5N
designator U?
MAX V 1.8V CPLD, 30 IOs, 80 Logic Elements, 64-Pin MBGA, Commercial Temperature, Speed Grade 5, Pb-Free; DatasheetVersion: ver1.2, May-2011; PackageVersion: ver1.0, Jul-2011; PackageReference: MBGA64_A-120; PackageDescription: 64-Pin Micro FineLine Ball-Grid Array (MBGA) - Wire Bond - A:1.20; Code_JEDEC: MO-195-BX; ComponentLink1Description: Manufacturer URL; ComponentLink1URL: http://www.altera.com/; ComponentLink2Description: Datasheet; ComponentLink2URL: http://www.altera.com/literature/hb/max-v/max5_handbook.pdf; ComponentLink3Description: MAX V Device Pin-Out files; ComponentLink3URL: http://www.altera.com/literature/lit-dp.jsp?category=MAX%205&showspreadsheet=y; ComponentLink4Description: Package Specification; ComponentLink4URL: http://www.altera.com/devicepackaging/04R00385-01.pdf
footprint MBGA64_A-120 (BGA, 64-Leads, Body 4.5x4.5mm, Pitch 0.5mm, Non-Solder Mask Defined Pads)
part A pins: A1 IO, DIFFIO_L1p (io), B1 IO, DIFFIO_L1n (io), C2 IO (io), D2 IO (io), E2 IO, CLK1 (io), F1 IO (io), F3 IO (io), F5 IO (io), F6 IO, DEV_OE, DIFFIO_B3p (io), G7 IO (io), G8 IO, DIFFIO_B4p (io), H3 IO, DIFFIO_B1p (io), H4 IO, DIFFIO_B1n (io), H5 IO, DIFFIO_B2p (io), H6 IO, DIFFIO_B2n (io), H7 IO, DEV_CLRn, DIFFIO_B3n (io), H8 IO, DIFFIO_B4n (io)
part B pins: A2 IO, DIFFIO_T1n (io), A3 IO, DIFFIO_T2p (io), A4 IO, DIFFIO_T2n (io), A6 IO, DIFFIO_T3n (io), A8 IO, DIFFIO_R1p (io), B2 IO, DIFFIO_T1p (io), B7 IO, DIFFIO_R2n (io), B8 IO, DIFFIO_R1n (io), C5 IO, DIFFIO_T3p (io), C6 IO (io), C8 IO, DIFFIO_R2p (io), D8 IO, CLK2 (io), F8 IO (io)
part C pins: G1 TMS (in), G3 TDO (out), H1 TDI (in), H2 TCK (in)
part D pins: A5 GND (power), A7 GND (power), B3 GND (power), B4 GND (power), B5 GND (power), B6 GND (power), C1 GND (power), C3 GND (power), C4 VCCIO2 (power), C7 GND (power), D1 GND (power), D3 VCCIO1 (power), D4 GND (power), D5 VCCIO2 (power), D6 VCCINT (power), D7 GND (power), E1 GND (power), E3 VCCIO1 (power), E4 GND (power), E5 GND (power), E6 GND (power), E7 GND (power), E8 GND (power), F2 GND (power), F4 GND (power), F7 GND (power), G2 GND (power), G4 GND (power), G5 GND (power), G6 GND (power)
part A text: BANK 1
part B text: BANK 2

## 5M80ZM64I5
designator U?
MAX V 1.8V CPLD, 30 IOs, 80 Logic Elements, 64-Pin MBGA, Industrial Temperature, Speed Grade 5; DatasheetVersion: ver1.2, May-2011; PackageVersion: ver1.0, Jul-2011; PackageReference: MBGA64_A-120; PackageDescription: 64-Pin Micro FineLine Ball-Grid Array (MBGA) - Wire Bond - A:1.20; Code_JEDEC: MO-195-BX; ComponentLink1Description: Manufacturer URL; ComponentLink1URL: http://www.altera.com/; ComponentLink2Description: Datasheet; ComponentLink2URL: http://www.altera.com/literature/hb/max-v/max5_handbook.pdf; ComponentLink3Description: MAX V Device Pin-Out files; ComponentLink3URL: http://www.altera.com/literature/lit-dp.jsp?category=MAX%205&showspreadsheet=y; ComponentLink4Description: Package Specification; ComponentLink4URL: http://www.altera.com/devicepackaging/04R00385-01.pdf
footprint MBGA64_A-120 (BGA, 64-Leads, Body 4.5x4.5mm, Pitch 0.5mm, Non-Solder Mask Defined Pads)
part A pins: A1 IO, DIFFIO_L1p (io), B1 IO, DIFFIO_L1n (io), C2 IO (io), D2 IO (io), E2 IO, CLK1 (io), F1 IO (io), F3 IO (io), F5 IO (io), F6 IO, DEV_OE, DIFFIO_B3p (io), G7 IO (io), G8 IO, DIFFIO_B4p (io), H3 IO, DIFFIO_B1p (io), H4 IO, DIFFIO_B1n (io), H5 IO, DIFFIO_B2p (io), H6 IO, DIFFIO_B2n (io), H7 IO, DEV_CLRn, DIFFIO_B3n (io), H8 IO, DIFFIO_B4n (io)
part B pins: A2 IO, DIFFIO_T1n (io), A3 IO, DIFFIO_T2p (io), A4 IO, DIFFIO_T2n (io), A6 IO, DIFFIO_T3n (io), A8 IO, DIFFIO_R1p (io), B2 IO, DIFFIO_T1p (io), B7 IO, DIFFIO_R2n (io), B8 IO, DIFFIO_R1n (io), C5 IO, DIFFIO_T3p (io), C6 IO (io), C8 IO, DIFFIO_R2p (io), D8 IO, CLK2 (io), F8 IO (io)
part C pins: G1 TMS (in), G3 TDO (out), H1 TDI (in), H2 TCK (in)
part D pins: A5 GND (power), A7 GND (power), B3 GND (power), B4 GND (power), B5 GND (power), B6 GND (power), C1 GND (power), C3 GND (power), C4 VCCIO2 (power), C7 GND (power), D1 GND (power), D3 VCCIO1 (power), D4 GND (power), D5 VCCIO2 (power), D6 VCCINT (power), D7 GND (power), E1 GND (power), E3 VCCIO1 (power), E4 GND (power), E5 GND (power), E6 GND (power), E7 GND (power), E8 GND (power), F2 GND (power), F4 GND (power), F7 GND (power), G2 GND (power), G4 GND (power), G5 GND (power), G6 GND (power)
part A text: BANK 1
part B text: BANK 2

## 5M80ZM64I5N
designator U?
MAX V 1.8V CPLD, 30 IOs, 80 Logic Elements, 64-Pin MBGA, Industrial Temperature, Speed Grade 5, Pb-Free; DatasheetVersion: ver1.2, May-2011; PackageVersion: ver1.0, Jul-2011; PackageReference: MBGA64_A-120; PackageDescription: 64-Pin Micro FineLine Ball-Grid Array (MBGA) - Wire Bond - A:1.20; Code_JEDEC: MO-195-BX; ComponentLink1Description: Manufacturer URL; ComponentLink1URL: http://www.altera.com/; ComponentLink2Description: Datasheet; ComponentLink2URL: http://www.altera.com/literature/hb/max-v/max5_handbook.pdf; ComponentLink3Description: MAX V Device Pin-Out files; ComponentLink3URL: http://www.altera.com/literature/lit-dp.jsp?category=MAX%205&showspreadsheet=y; ComponentLink4Description: Package Specification; ComponentLink4URL: http://www.altera.com/devicepackaging/04R00385-01.pdf
footprint MBGA64_A-120 (BGA, 64-Leads, Body 4.5x4.5mm, Pitch 0.5mm, Non-Solder Mask Defined Pads)
part A pins: A1 IO, DIFFIO_L1p (io), B1 IO, DIFFIO_L1n (io), C2 IO (io), D2 IO (io), E2 IO, CLK1 (io), F1 IO (io), F3 IO (io), F5 IO (io), F6 IO, DEV_OE, DIFFIO_B3p (io), G7 IO (io), G8 IO, DIFFIO_B4p (io), H3 IO, DIFFIO_B1p (io), H4 IO, DIFFIO_B1n (io), H5 IO, DIFFIO_B2p (io), H6 IO, DIFFIO_B2n (io), H7 IO, DEV_CLRn, DIFFIO_B3n (io), H8 IO, DIFFIO_B4n (io)
part B pins: A2 IO, DIFFIO_T1n (io), A3 IO, DIFFIO_T2p (io), A4 IO, DIFFIO_T2n (io), A6 IO, DIFFIO_T3n (io), A8 IO, DIFFIO_R1p (io), B2 IO, DIFFIO_T1p (io), B7 IO, DIFFIO_R2n (io), B8 IO, DIFFIO_R1n (io), C5 IO, DIFFIO_T3p (io), C6 IO (io), C8 IO, DIFFIO_R2p (io), D8 IO, CLK2 (io), F8 IO (io)
part C pins: G1 TMS (in), G3 TDO (out), H1 TDI (in), H2 TCK (in)
part D pins: A5 GND (power), A7 GND (power), B3 GND (power), B4 GND (power), B5 GND (power), B6 GND (power), C1 GND (power), C3 GND (power), C4 VCCIO2 (power), C7 GND (power), D1 GND (power), D3 VCCIO1 (power), D4 GND (power), D5 VCCIO2 (power), D6 VCCINT (power), D7 GND (power), E1 GND (power), E3 VCCIO1 (power), E4 GND (power), E5 GND (power), E6 GND (power), E7 GND (power), E8 GND (power), F2 GND (power), F4 GND (power), F7 GND (power), G2 GND (power), G4 GND (power), G5 GND (power), G6 GND (power)
part A text: BANK 1
part B text: BANK 2

## 5M80ZM68A5
designator U?
MAX V 1.8V CPLD, 52 IOs, 80 Logic Elements, 68-Pin MBGA, Automotive Temperature, Speed Grade 5; DatasheetVersion: ver1.2, May-2011; PackageVersion: ver1.0, Jul-2011; PackageReference: MBGA68_A-120; PackageDescription: 68-Pin Micro FineLine Ball-Grid Array (MBGA) - Wire Bond - A:1.20; Code_JEDEC: MO-195-AB; ComponentLink1Description: Manufacturer URL; ComponentLink1URL: http://www.altera.com/; ComponentLink2Description: Datasheet; ComponentLink2URL: http://www.altera.com/literature/hb/max-v/max5_handbook.pdf; ComponentLink3Description: MAX V Device Pin-Out files; ComponentLink3URL: http://www.altera.com/literature/lit-dp.jsp?category=MAX%205&showspreadsheet=y; ComponentLink4Description: Package Specification; ComponentLink4URL: http://www.altera.com/devicepackaging/04R00344-01.pdf
footprint MBGA68_A-120 (BGA, 68-Leads, Body 5x5mm, Pitch 0.5mm, Non-Solder Mask Defined Pads)
part A pins: A1 IO, DIFFIO_L1p (io), B1 IO, DIFFIO_L1n (io), C1 IO (io), C2 IO, DIFFIO_L2p (io), D1 IO, DIFFIO_L2n (io), D2 IO (io), E1 IO, CLK1 (io), E2 IO, CLK0 (io), F2 IO, DIFFIO_L3p (io), F3 IO, DIFFIO_L3n (io), G2 IO (io), G6 IO, DIFFIO_B4p (io), H3 IO, DIFFIO_B1n (io), H4 IO, DIFFIO_B2n (io), H5 IO, DIFFIO_B3n (io), H6 IO, DIFFIO_B4n (io), H7 IO, DEV_CLRn, DIFFIO_B5n (io), H8 IO, DIFFIO_B6n (io), J2 IO, DIFFIO_B1p (io), J3 IO, DIFFIO_B2p (io), J4 IO, DIFFIO_B3p (io), J6 IO, DEV_OE, DIFFIO_B5p (io), J7 IO, DIFFIO_B6p (io), J8 IO, DIFFIO_B7p (io), J9 IO, DIFFIO_B7n (io)
part B pins: A2 IO, DIFFIO_T1p (io), A3 IO, DIFFIO_T1n (io), A4 IO, DIFFIO_T2n (io), A5 IO, DIFFIO_T3n (io), A6 IO, DIFFIO_T5n (io), A7 IO (io), A8 IO, DIFFIO_T6n (io), A9 IO (io), B2 IO (io), B3 IO, DIFFIO_T2p (io), B4 IO, DIFFIO_T3p (io), B5 IO, DIFFIO_T4p (io), B6 IO, DIFFIO_T4n (io), B7 IO, DIFFIO_T5p (io), B8 IO, DIFFIO_T6p (io), B9 IO, DIFFIO_R1p (io), C8 IO, DIFFIO_R1n (io), C9 IO, DIFFIO_R2p (io), D8 IO (io), D9 IO, DIFFIO_R2n (io), E8 IO, CLK3 (io), E9 IO, CLK2 (io), F8 IO, DIFFIO_R3p (io), F9 IO (io), G8 IO, DIFFIO_R3n (io), G9 IO, DIFFIO_R4p (io), H9 IO, DIFFIO_R4n (io)
part C pins: G1 TMS (in), H1 TDI (in), H2 TDO (out), J1 TCK (in)
part D pins: C4 VCCIO2 (power), C5 GND (power), C6 GND (power), D3 VCCIO1 (power), D7 VCCINT (power), E3 GND (power), E7 GND (power), F1 GND (power), F7 VCCIO2 (power), G4 VCCIO1 (power), G5 GND (power), J5 GND (power)
part A text: BANK 1
part B text: BANK 2

## 5M80ZM68A5N
designator U?
MAX V 1.8V CPLD, 52 IOs, 80 Logic Elements, 68-Pin MBGA, Automotive Temperature, Speed Grade 5, Pb-Free; DatasheetVersion: ver1.2, May-2011; PackageVersion: ver1.0, Jul-2011; PackageReference: MBGA68_A-120; PackageDescription: 68-Pin Micro FineLine Ball-Grid Array (MBGA) - Wire Bond - A:1.20; Code_JEDEC: MO-195-AB; ComponentLink1Description: Manufacturer URL; ComponentLink1URL: http://www.altera.com/; ComponentLink2Description: Datasheet; ComponentLink2URL: http://www.altera.com/literature/hb/max-v/max5_handbook.pdf; ComponentLink3Description: MAX V Device Pin-Out files; ComponentLink3URL: http://www.altera.com/literature/lit-dp.jsp?category=MAX%205&showspreadsheet=y; ComponentLink4Description: Package Specification; ComponentLink4URL: http://www.altera.com/devicepackaging/04R00344-01.pdf
footprint MBGA68_A-120 (BGA, 68-Leads, Body 5x5mm, Pitch 0.5mm, Non-Solder Mask Defined Pads)
part A pins: A1 IO, DIFFIO_L1p (io), B1 IO, DIFFIO_L1n (io), C1 IO (io), C2 IO, DIFFIO_L2p (io), D1 IO, DIFFIO_L2n (io), D2 IO (io), E1 IO, CLK1 (io), E2 IO, CLK0 (io), F2 IO, DIFFIO_L3p (io), F3 IO, DIFFIO_L3n (io), G2 IO (io), G6 IO, DIFFIO_B4p (io), H3 IO, DIFFIO_B1n (io), H4 IO, DIFFIO_B2n (io), H5 IO, DIFFIO_B3n (io), H6 IO, DIFFIO_B4n (io), H7 IO, DEV_CLRn, DIFFIO_B5n (io), H8 IO, DIFFIO_B6n (io), J2 IO, DIFFIO_B1p (io), J3 IO, DIFFIO_B2p (io), J4 IO, DIFFIO_B3p (io), J6 IO, DEV_OE, DIFFIO_B5p (io), J7 IO, DIFFIO_B6p (io), J8 IO, DIFFIO_B7p (io), J9 IO, DIFFIO_B7n (io)
part B pins: A2 IO, DIFFIO_T1p (io), A3 IO, DIFFIO_T1n (io), A4 IO, DIFFIO_T2n (io), A5 IO, DIFFIO_T3n (io), A6 IO, DIFFIO_T5n (io), A7 IO (io), A8 IO, DIFFIO_T6n (io), A9 IO (io), B2 IO (io), B3 IO, DIFFIO_T2p (io), B4 IO, DIFFIO_T3p (io), B5 IO, DIFFIO_T4p (io), B6 IO, DIFFIO_T4n (io), B7 IO, DIFFIO_T5p (io), B8 IO, DIFFIO_T6p (io), B9 IO, DIFFIO_R1p (io), C8 IO, DIFFIO_R1n (io), C9 IO, DIFFIO_R2p (io), D8 IO (io), D9 IO, DIFFIO_R2n (io), E8 IO, CLK3 (io), E9 IO, CLK2 (io), F8 IO, DIFFIO_R3p (io), F9 IO (io), G8 IO, DIFFIO_R3n (io), G9 IO, DIFFIO_R4p (io), H9 IO, DIFFIO_R4n (io)
part C pins: G1 TMS (in), H1 TDI (in), H2 TDO (out), J1 TCK (in)
part D pins: C4 VCCIO2 (power), C5 GND (power), C6 GND (power), D3 VCCIO1 (power), D7 VCCINT (power), E3 GND (power), E7 GND (power), F1 GND (power), F7 VCCIO2 (power), G4 VCCIO1 (power), G5 GND (power), J5 GND (power)
part A text: BANK 1
part B text: BANK 2

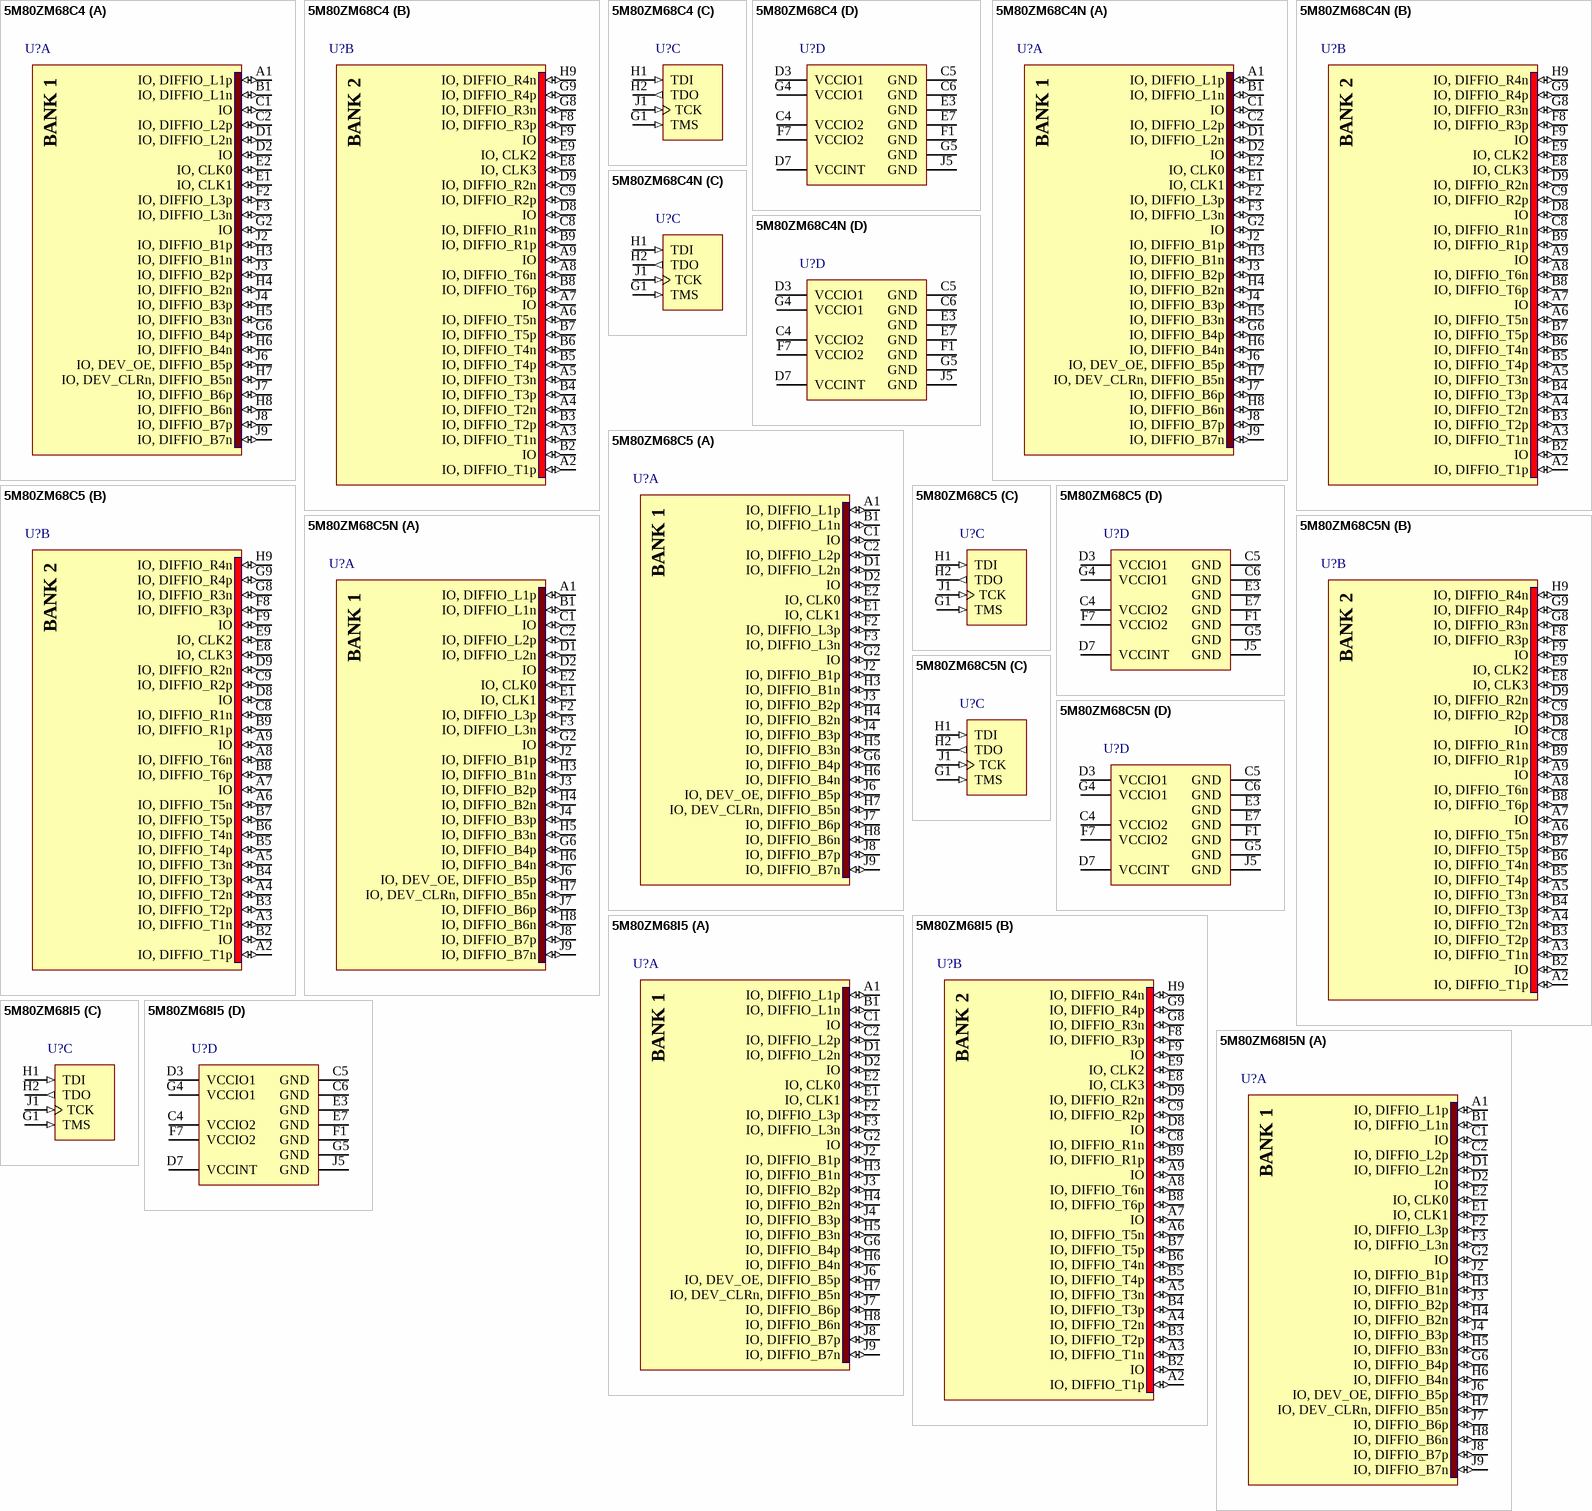
[diagram p7: symbols 5M80ZM68C4 to 5M80ZM68I5N]

## 5M80ZM68C4
designator U?
MAX V 1.8V CPLD, 52 IOs, 80 Logic Elements, 68-Pin MBGA, Commercial Temperature, Speed Grade 4; DatasheetVersion: ver1.2, May-2011; PackageVersion: ver1.0, Jul-2011; PackageReference: MBGA68_A-120; PackageDescription: 68-Pin Micro FineLine Ball-Grid Array (MBGA) - Wire Bond - A:1.20; Code_JEDEC: MO-195-AB; ComponentLink1Description: Manufacturer URL; ComponentLink1URL: http://www.altera.com/; ComponentLink2Description: Datasheet; ComponentLink2URL: http://www.altera.com/literature/hb/max-v/max5_handbook.pdf; ComponentLink3Description: MAX V Device Pin-Out files; ComponentLink3URL: http://www.altera.com/literature/lit-dp.jsp?category=MAX%205&showspreadsheet=y; ComponentLink4Description: Package Specification; ComponentLink4URL: http://www.altera.com/devicepackaging/04R00344-01.pdf
footprint MBGA68_A-120 (BGA, 68-Leads, Body 5x5mm, Pitch 0.5mm, Non-Solder Mask Defined Pads)
part A pins: A1 IO, DIFFIO_L1p (io), B1 IO, DIFFIO_L1n (io), C1 IO (io), C2 IO, DIFFIO_L2p (io), D1 IO, DIFFIO_L2n (io), D2 IO (io), E1 IO, CLK1 (io), E2 IO, CLK0 (io), F2 IO, DIFFIO_L3p (io), F3 IO, DIFFIO_L3n (io), G2 IO (io), G6 IO, DIFFIO_B4p (io), H3 IO, DIFFIO_B1n (io), H4 IO, DIFFIO_B2n (io), H5 IO, DIFFIO_B3n (io), H6 IO, DIFFIO_B4n (io), H7 IO, DEV_CLRn, DIFFIO_B5n (io), H8 IO, DIFFIO_B6n (io), J2 IO, DIFFIO_B1p (io), J3 IO, DIFFIO_B2p (io), J4 IO, DIFFIO_B3p (io), J6 IO, DEV_OE, DIFFIO_B5p (io), J7 IO, DIFFIO_B6p (io), J8 IO, DIFFIO_B7p (io), J9 IO, DIFFIO_B7n (io)
part B pins: A2 IO, DIFFIO_T1p (io), A3 IO, DIFFIO_T1n (io), A4 IO, DIFFIO_T2n (io), A5 IO, DIFFIO_T3n (io), A6 IO, DIFFIO_T5n (io), A7 IO (io), A8 IO, DIFFIO_T6n (io), A9 IO (io), B2 IO (io), B3 IO, DIFFIO_T2p (io), B4 IO, DIFFIO_T3p (io), B5 IO, DIFFIO_T4p (io), B6 IO, DIFFIO_T4n (io), B7 IO, DIFFIO_T5p (io), B8 IO, DIFFIO_T6p (io), B9 IO, DIFFIO_R1p (io), C8 IO, DIFFIO_R1n (io), C9 IO, DIFFIO_R2p (io), D8 IO (io), D9 IO, DIFFIO_R2n (io), E8 IO, CLK3 (io), E9 IO, CLK2 (io), F8 IO, DIFFIO_R3p (io), F9 IO (io), G8 IO, DIFFIO_R3n (io), G9 IO, DIFFIO_R4p (io), H9 IO, DIFFIO_R4n (io)
part C pins: G1 TMS (in), H1 TDI (in), H2 TDO (out), J1 TCK (in)
part D pins: C4 VCCIO2 (power), C5 GND (power), C6 GND (power), D3 VCCIO1 (power), D7 VCCINT (power), E3 GND (power), E7 GND (power), F1 GND (power), F7 VCCIO2 (power), G4 VCCIO1 (power), G5 GND (power), J5 GND (power)
part A text: BANK 1
part B text: BANK 2

## 5M80ZM68C4N
designator U?
MAX V 1.8V CPLD, 52 IOs, 80 Logic Elements, 68-Pin MBGA, Commercial Temperature, Speed Grade 4, Pb-Free; DatasheetVersion: ver1.2, May-2011; PackageVersion: ver1.0, Jul-2011; PackageReference: MBGA68_A-120; PackageDescription: 68-Pin Micro FineLine Ball-Grid Array (MBGA) - Wire Bond - A:1.20; Code_JEDEC: MO-195-AB; ComponentLink1Description: Manufacturer URL; ComponentLink1URL: http://www.altera.com/; ComponentLink2Description: Datasheet; ComponentLink2URL: http://www.altera.com/literature/hb/max-v/max5_handbook.pdf; ComponentLink3Description: MAX V Device Pin-Out files; ComponentLink3URL: http://www.altera.com/literature/lit-dp.jsp?category=MAX%205&showspreadsheet=y; ComponentLink4Description: Package Specification; ComponentLink4URL: http://www.altera.com/devicepackaging/04R00344-01.pdf
footprint MBGA68_A-120 (BGA, 68-Leads, Body 5x5mm, Pitch 0.5mm, Non-Solder Mask Defined Pads)
part A pins: A1 IO, DIFFIO_L1p (io), B1 IO, DIFFIO_L1n (io), C1 IO (io), C2 IO, DIFFIO_L2p (io), D1 IO, DIFFIO_L2n (io), D2 IO (io), E1 IO, CLK1 (io), E2 IO, CLK0 (io), F2 IO, DIFFIO_L3p (io), F3 IO, DIFFIO_L3n (io), G2 IO (io), G6 IO, DIFFIO_B4p (io), H3 IO, DIFFIO_B1n (io), H4 IO, DIFFIO_B2n (io), H5 IO, DIFFIO_B3n (io), H6 IO, DIFFIO_B4n (io), H7 IO, DEV_CLRn, DIFFIO_B5n (io), H8 IO, DIFFIO_B6n (io), J2 IO, DIFFIO_B1p (io), J3 IO, DIFFIO_B2p (io), J4 IO, DIFFIO_B3p (io), J6 IO, DEV_OE, DIFFIO_B5p (io), J7 IO, DIFFIO_B6p (io), J8 IO, DIFFIO_B7p (io), J9 IO, DIFFIO_B7n (io)
part B pins: A2 IO, DIFFIO_T1p (io), A3 IO, DIFFIO_T1n (io), A4 IO, DIFFIO_T2n (io), A5 IO, DIFFIO_T3n (io), A6 IO, DIFFIO_T5n (io), A7 IO (io), A8 IO, DIFFIO_T6n (io), A9 IO (io), B2 IO (io), B3 IO, DIFFIO_T2p (io), B4 IO, DIFFIO_T3p (io), B5 IO, DIFFIO_T4p (io), B6 IO, DIFFIO_T4n (io), B7 IO, DIFFIO_T5p (io), B8 IO, DIFFIO_T6p (io), B9 IO, DIFFIO_R1p (io), C8 IO, DIFFIO_R1n (io), C9 IO, DIFFIO_R2p (io), D8 IO (io), D9 IO, DIFFIO_R2n (io), E8 IO, CLK3 (io), E9 IO, CLK2 (io), F8 IO, DIFFIO_R3p (io), F9 IO (io), G8 IO, DIFFIO_R3n (io), G9 IO, DIFFIO_R4p (io), H9 IO, DIFFIO_R4n (io)
part C pins: G1 TMS (in), H1 TDI (in), H2 TDO (out), J1 TCK (in)
part D pins: C4 VCCIO2 (power), C5 GND (power), C6 GND (power), D3 VCCIO1 (power), D7 VCCINT (power), E3 GND (power), E7 GND (power), F1 GND (power), F7 VCCIO2 (power), G4 VCCIO1 (power), G5 GND (power), J5 GND (power)
part A text: BANK 1
part B text: BANK 2

## 5M80ZM68C5
designator U?
MAX V 1.8V CPLD, 52 IOs, 80 Logic Elements, 68-Pin MBGA, Commercial Temperature, Speed Grade 5; DatasheetVersion: ver1.2, May-2011; PackageVersion: ver1.0, Jul-2011; PackageReference: MBGA68_A-120; PackageDescription: 68-Pin Micro FineLine Ball-Grid Array (MBGA) - Wire Bond - A:1.20; Code_JEDEC: MO-195-AB; ComponentLink1Description: Manufacturer URL; ComponentLink1URL: http://www.altera.com/; ComponentLink2Description: Datasheet; ComponentLink2URL: http://www.altera.com/literature/hb/max-v/max5_handbook.pdf; ComponentLink3Description: MAX V Device Pin-Out files; ComponentLink3URL: http://www.altera.com/literature/lit-dp.jsp?category=MAX%205&showspreadsheet=y; ComponentLink4Description: Package Specification; ComponentLink4URL: http://www.altera.com/devicepackaging/04R00344-01.pdf
footprint MBGA68_A-120 (BGA, 68-Leads, Body 5x5mm, Pitch 0.5mm, Non-Solder Mask Defined Pads)
part A pins: A1 IO, DIFFIO_L1p (io), B1 IO, DIFFIO_L1n (io), C1 IO (io), C2 IO, DIFFIO_L2p (io), D1 IO, DIFFIO_L2n (io), D2 IO (io), E1 IO, CLK1 (io), E2 IO, CLK0 (io), F2 IO, DIFFIO_L3p (io), F3 IO, DIFFIO_L3n (io), G2 IO (io), G6 IO, DIFFIO_B4p (io), H3 IO, DIFFIO_B1n (io), H4 IO, DIFFIO_B2n (io), H5 IO, DIFFIO_B3n (io), H6 IO, DIFFIO_B4n (io), H7 IO, DEV_CLRn, DIFFIO_B5n (io), H8 IO, DIFFIO_B6n (io), J2 IO, DIFFIO_B1p (io), J3 IO, DIFFIO_B2p (io), J4 IO, DIFFIO_B3p (io), J6 IO, DEV_OE, DIFFIO_B5p (io), J7 IO, DIFFIO_B6p (io), J8 IO, DIFFIO_B7p (io), J9 IO, DIFFIO_B7n (io)
part B pins: A2 IO, DIFFIO_T1p (io), A3 IO, DIFFIO_T1n (io), A4 IO, DIFFIO_T2n (io), A5 IO, DIFFIO_T3n (io), A6 IO, DIFFIO_T5n (io), A7 IO (io), A8 IO, DIFFIO_T6n (io), A9 IO (io), B2 IO (io), B3 IO, DIFFIO_T2p (io), B4 IO, DIFFIO_T3p (io), B5 IO, DIFFIO_T4p (io), B6 IO, DIFFIO_T4n (io), B7 IO, DIFFIO_T5p (io), B8 IO, DIFFIO_T6p (io), B9 IO, DIFFIO_R1p (io), C8 IO, DIFFIO_R1n (io), C9 IO, DIFFIO_R2p (io), D8 IO (io), D9 IO, DIFFIO_R2n (io), E8 IO, CLK3 (io), E9 IO, CLK2 (io), F8 IO, DIFFIO_R3p (io), F9 IO (io), G8 IO, DIFFIO_R3n (io), G9 IO, DIFFIO_R4p (io), H9 IO, DIFFIO_R4n (io)
part C pins: G1 TMS (in), H1 TDI (in), H2 TDO (out), J1 TCK (in)
part D pins: C4 VCCIO2 (power), C5 GND (power), C6 GND (power), D3 VCCIO1 (power), D7 VCCINT (power), E3 GND (power), E7 GND (power), F1 GND (power), F7 VCCIO2 (power), G4 VCCIO1 (power), G5 GND (power), J5 GND (power)
part A text: BANK 1
part B text: BANK 2

## 5M80ZM68C5N
designator U?
MAX V 1.8V CPLD, 52 IOs, 80 Logic Elements, 68-Pin MBGA, Commercial Temperature, Speed Grade 5, Pb-Free; DatasheetVersion: ver1.2, May-2011; PackageVersion: ver1.0, Jul-2011; PackageReference: MBGA68_A-120; PackageDescription: 68-Pin Micro FineLine Ball-Grid Array (MBGA) - Wire Bond - A:1.20; Code_JEDEC: MO-195-AB; ComponentLink1Description: Manufacturer URL; ComponentLink1URL: http://www.altera.com/; ComponentLink2Description: Datasheet; ComponentLink2URL: http://www.altera.com/literature/hb/max-v/max5_handbook.pdf; ComponentLink3Description: MAX V Device Pin-Out files; ComponentLink3URL: http://www.altera.com/literature/lit-dp.jsp?category=MAX%205&showspreadsheet=y; ComponentLink4Description: Package Specification; ComponentLink4URL: http://www.altera.com/devicepackaging/04R00344-01.pdf
footprint MBGA68_A-120 (BGA, 68-Leads, Body 5x5mm, Pitch 0.5mm, Non-Solder Mask Defined Pads)
part A pins: A1 IO, DIFFIO_L1p (io), B1 IO, DIFFIO_L1n (io), C1 IO (io), C2 IO, DIFFIO_L2p (io), D1 IO, DIFFIO_L2n (io), D2 IO (io), E1 IO, CLK1 (io), E2 IO, CLK0 (io), F2 IO, DIFFIO_L3p (io), F3 IO, DIFFIO_L3n (io), G2 IO (io), G6 IO, DIFFIO_B4p (io), H3 IO, DIFFIO_B1n (io), H4 IO, DIFFIO_B2n (io), H5 IO, DIFFIO_B3n (io), H6 IO, DIFFIO_B4n (io), H7 IO, DEV_CLRn, DIFFIO_B5n (io), H8 IO, DIFFIO_B6n (io), J2 IO, DIFFIO_B1p (io), J3 IO, DIFFIO_B2p (io), J4 IO, DIFFIO_B3p (io), J6 IO, DEV_OE, DIFFIO_B5p (io), J7 IO, DIFFIO_B6p (io), J8 IO, DIFFIO_B7p (io), J9 IO, DIFFIO_B7n (io)
part B pins: A2 IO, DIFFIO_T1p (io), A3 IO, DIFFIO_T1n (io), A4 IO, DIFFIO_T2n (io), A5 IO, DIFFIO_T3n (io), A6 IO, DIFFIO_T5n (io), A7 IO (io), A8 IO, DIFFIO_T6n (io), A9 IO (io), B2 IO (io), B3 IO, DIFFIO_T2p (io), B4 IO, DIFFIO_T3p (io), B5 IO, DIFFIO_T4p (io), B6 IO, DIFFIO_T4n (io), B7 IO, DIFFIO_T5p (io), B8 IO, DIFFIO_T6p (io), B9 IO, DIFFIO_R1p (io), C8 IO, DIFFIO_R1n (io), C9 IO, DIFFIO_R2p (io), D8 IO (io), D9 IO, DIFFIO_R2n (io), E8 IO, CLK3 (io), E9 IO, CLK2 (io), F8 IO, DIFFIO_R3p (io), F9 IO (io), G8 IO, DIFFIO_R3n (io), G9 IO, DIFFIO_R4p (io), H9 IO, DIFFIO_R4n (io)
part C pins: G1 TMS (in), H1 TDI (in), H2 TDO (out), J1 TCK (in)
part D pins: C4 VCCIO2 (power), C5 GND (power), C6 GND (power), D3 VCCIO1 (power), D7 VCCINT (power), E3 GND (power), E7 GND (power), F1 GND (power), F7 VCCIO2 (power), G4 VCCIO1 (power), G5 GND (power), J5 GND (power)
part A text: BANK 1
part B text: BANK 2

## 5M80ZM68I5
designator U?
MAX V 1.8V CPLD, 52 IOs, 80 Logic Elements, 68-Pin MBGA, Industrial Temperature, Speed Grade 5; DatasheetVersion: ver1.2, May-2011; PackageVersion: ver1.0, Jul-2011; PackageReference: MBGA68_A-120; PackageDescription: 68-Pin Micro FineLine Ball-Grid Array (MBGA) - Wire Bond - A:1.20; Code_JEDEC: MO-195-AB; ComponentLink1Description: Manufacturer URL; ComponentLink1URL: http://www.altera.com/; ComponentLink2Description: Datasheet; ComponentLink2URL: http://www.altera.com/literature/hb/max-v/max5_handbook.pdf; ComponentLink3Description: MAX V Device Pin-Out files; ComponentLink3URL: http://www.altera.com/literature/lit-dp.jsp?category=MAX%205&showspreadsheet=y; ComponentLink4Description: Package Specification; ComponentLink4URL: http://www.altera.com/devicepackaging/04R00344-01.pdf
footprint MBGA68_A-120 (BGA, 68-Leads, Body 5x5mm, Pitch 0.5mm, Non-Solder Mask Defined Pads)
part A pins: A1 IO, DIFFIO_L1p (io), B1 IO, DIFFIO_L1n (io), C1 IO (io), C2 IO, DIFFIO_L2p (io), D1 IO, DIFFIO_L2n (io), D2 IO (io), E1 IO, CLK1 (io), E2 IO, CLK0 (io), F2 IO, DIFFIO_L3p (io), F3 IO, DIFFIO_L3n (io), G2 IO (io), G6 IO, DIFFIO_B4p (io), H3 IO, DIFFIO_B1n (io), H4 IO, DIFFIO_B2n (io), H5 IO, DIFFIO_B3n (io), H6 IO, DIFFIO_B4n (io), H7 IO, DEV_CLRn, DIFFIO_B5n (io), H8 IO, DIFFIO_B6n (io), J2 IO, DIFFIO_B1p (io), J3 IO, DIFFIO_B2p (io), J4 IO, DIFFIO_B3p (io), J6 IO, DEV_OE, DIFFIO_B5p (io), J7 IO, DIFFIO_B6p (io), J8 IO, DIFFIO_B7p (io), J9 IO, DIFFIO_B7n (io)
part B pins: A2 IO, DIFFIO_T1p (io), A3 IO, DIFFIO_T1n (io), A4 IO, DIFFIO_T2n (io), A5 IO, DIFFIO_T3n (io), A6 IO, DIFFIO_T5n (io), A7 IO (io), A8 IO, DIFFIO_T6n (io), A9 IO (io), B2 IO (io), B3 IO, DIFFIO_T2p (io), B4 IO, DIFFIO_T3p (io), B5 IO, DIFFIO_T4p (io), B6 IO, DIFFIO_T4n (io), B7 IO, DIFFIO_T5p (io), B8 IO, DIFFIO_T6p (io), B9 IO, DIFFIO_R1p (io), C8 IO, DIFFIO_R1n (io), C9 IO, DIFFIO_R2p (io), D8 IO (io), D9 IO, DIFFIO_R2n (io), E8 IO, CLK3 (io), E9 IO, CLK2 (io), F8 IO, DIFFIO_R3p (io), F9 IO (io), G8 IO, DIFFIO_R3n (io), G9 IO, DIFFIO_R4p (io), H9 IO, DIFFIO_R4n (io)
part C pins: G1 TMS (in), H1 TDI (in), H2 TDO (out), J1 TCK (in)
part D pins: C4 VCCIO2 (power), C5 GND (power), C6 GND (power), D3 VCCIO1 (power), D7 VCCINT (power), E3 GND (power), E7 GND (power), F1 GND (power), F7 VCCIO2 (power), G4 VCCIO1 (power), G5 GND (power), J5 GND (power)
part A text: BANK 1
part B text: BANK 2

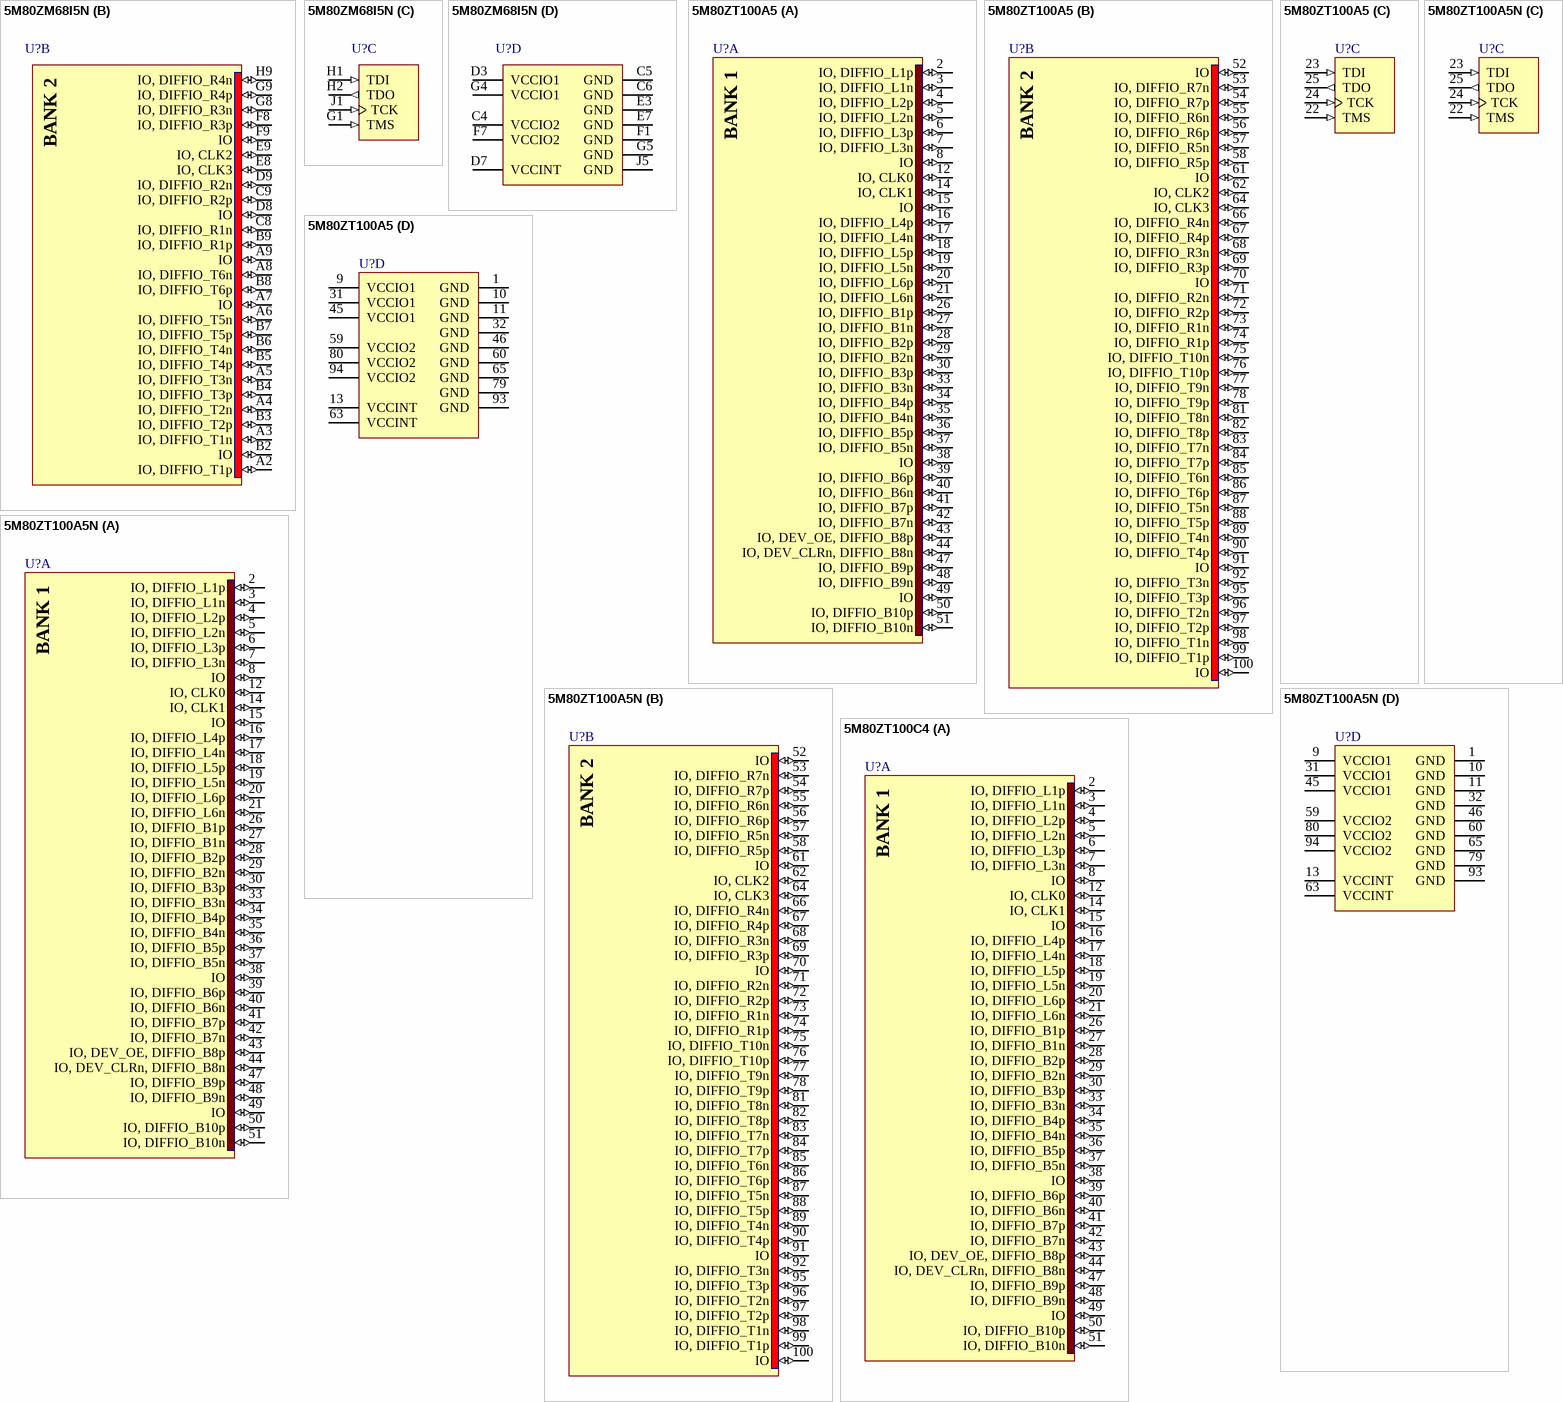
[diagram p8: symbols 5M80ZM68I5N to 5M80ZT100C4]

## 5M80ZM68I5N
designator U?
MAX V 1.8V CPLD, 52 IOs, 80 Logic Elements, 68-Pin MBGA, Industrial Temperature, Speed Grade 5, Pb-Free; DatasheetVersion: ver1.2, May-2011; PackageVersion: ver1.0, Jul-2011; PackageReference: MBGA68_A-120; PackageDescription: 68-Pin Micro FineLine Ball-Grid Array (MBGA) - Wire Bond - A:1.20; Code_JEDEC: MO-195-AB; ComponentLink1Description: Manufacturer URL; ComponentLink1URL: http://www.altera.com/; ComponentLink2Description: Datasheet; ComponentLink2URL: http://www.altera.com/literature/hb/max-v/max5_handbook.pdf; ComponentLink3Description: MAX V Device Pin-Out files; ComponentLink3URL: http://www.altera.com/literature/lit-dp.jsp?category=MAX%205&showspreadsheet=y; ComponentLink4Description: Package Specification; ComponentLink4URL: http://www.altera.com/devicepackaging/04R00344-01.pdf
footprint MBGA68_A-120 (BGA, 68-Leads, Body 5x5mm, Pitch 0.5mm, Non-Solder Mask Defined Pads)
part A pins: A1 IO, DIFFIO_L1p (io), B1 IO, DIFFIO_L1n (io), C1 IO (io), C2 IO, DIFFIO_L2p (io), D1 IO, DIFFIO_L2n (io), D2 IO (io), E1 IO, CLK1 (io), E2 IO, CLK0 (io), F2 IO, DIFFIO_L3p (io), F3 IO, DIFFIO_L3n (io), G2 IO (io), G6 IO, DIFFIO_B4p (io), H3 IO, DIFFIO_B1n (io), H4 IO, DIFFIO_B2n (io), H5 IO, DIFFIO_B3n (io), H6 IO, DIFFIO_B4n (io), H7 IO, DEV_CLRn, DIFFIO_B5n (io), H8 IO, DIFFIO_B6n (io), J2 IO, DIFFIO_B1p (io), J3 IO, DIFFIO_B2p (io), J4 IO, DIFFIO_B3p (io), J6 IO, DEV_OE, DIFFIO_B5p (io), J7 IO, DIFFIO_B6p (io), J8 IO, DIFFIO_B7p (io), J9 IO, DIFFIO_B7n (io)
part B pins: A2 IO, DIFFIO_T1p (io), A3 IO, DIFFIO_T1n (io), A4 IO, DIFFIO_T2n (io), A5 IO, DIFFIO_T3n (io), A6 IO, DIFFIO_T5n (io), A7 IO (io), A8 IO, DIFFIO_T6n (io), A9 IO (io), B2 IO (io), B3 IO, DIFFIO_T2p (io), B4 IO, DIFFIO_T3p (io), B5 IO, DIFFIO_T4p (io), B6 IO, DIFFIO_T4n (io), B7 IO, DIFFIO_T5p (io), B8 IO, DIFFIO_T6p (io), B9 IO, DIFFIO_R1p (io), C8 IO, DIFFIO_R1n (io), C9 IO, DIFFIO_R2p (io), D8 IO (io), D9 IO, DIFFIO_R2n (io), E8 IO, CLK3 (io), E9 IO, CLK2 (io), F8 IO, DIFFIO_R3p (io), F9 IO (io), G8 IO, DIFFIO_R3n (io), G9 IO, DIFFIO_R4p (io), H9 IO, DIFFIO_R4n (io)
part C pins: G1 TMS (in), H1 TDI (in), H2 TDO (out), J1 TCK (in)
part D pins: C4 VCCIO2 (power), C5 GND (power), C6 GND (power), D3 VCCIO1 (power), D7 VCCINT (power), E3 GND (power), E7 GND (power), F1 GND (power), F7 VCCIO2 (power), G4 VCCIO1 (power), G5 GND (power), J5 GND (power)
part A text: BANK 1
part B text: BANK 2

## 5M80ZT100A5
designator U?
MAX V 1.8V CPLD, 79 IOs, 80 Logic Elements, 100-Pin TQFP, Automotive Temperature, Speed Grade 5; DatasheetVersion: ver1.2, May-2011; PackageVersion: ver1.0, Jul-2011; PackageReference: TQFP100_A-120; PackageDescription: 100-Pin Plastic Thin Quad Flat Pack (TQFP) - Wire Bond - A:1.20; Code_JEDEC: MS-029-AED; ComponentLink1Description: Manufacturer URL; ComponentLink1URL: http://www.altera.com/; ComponentLink2Description: Datasheet; ComponentLink2URL: http://www.altera.com/literature/hb/max-v/max5_handbook.pdf; ComponentLink3Description: MAX V Device Pin-Out files; ComponentLink3URL: http://www.altera.com/literature/lit-dp.jsp?category=MAX%205&showspreadsheet=y; ComponentLink4Description: Package Specification; ComponentLink4URL: http://www.altera.com/devicepackaging/04R00365-01.pdf
footprint TQFP100_A-120_N (Thin QFP, 100-Leads, Body 14x14mm, Pitch 0.5mm, IPC Medium Density)
footprint TQFP100_A-120_L (Thin QFP, 100-Leads, Body 14x14mm, Pitch 0.5mm, IPC High Density)
footprint TQFP100_A-120_M (Thin QFP, 100-Leads, Body 14x14mm, Pitch 0.5mm, IPC Low Density)
part A pins: 2 IO, DIFFIO_L1p (io), 3 IO, DIFFIO_L1n (io), 4 IO, DIFFIO_L2p (io), 5 IO, DIFFIO_L2n (io), 6 IO, DIFFIO_L3p (io), 7 IO, DIFFIO_L3n (io), 8 IO (io), 12 IO, CLK0 (io), 14 IO, CLK1 (io), 15 IO (io), 16 IO, DIFFIO_L4p (io), 17 IO, DIFFIO_L4n (io), 18 IO, DIFFIO_L5p (io), 19 IO, DIFFIO_L5n (io), 20 IO, DIFFIO_L6p (io), 21 IO, DIFFIO_L6n (io), 26 IO, DIFFIO_B1p (io), 27 IO, DIFFIO_B1n (io), 28 IO, DIFFIO_B2p (io), 29 IO, DIFFIO_B2n (io), 30 IO, DIFFIO_B3p (io), 33 IO, DIFFIO_B3n (io), 34 IO, DIFFIO_B4p (io), 35 IO, DIFFIO_B4n (io), 36 IO, DIFFIO_B5p (io), 37 IO, DIFFIO_B5n (io), 38 IO (io), 39 IO, DIFFIO_B6p (io), 40 IO, DIFFIO_B6n (io), 41 IO, DIFFIO_B7p (io), 42 IO, DIFFIO_B7n (io), 43 IO, DEV_OE, DIFFIO_B8p (io), 44 IO, DEV_CLRn, DIFFIO_B8n (io), 47 IO, DIFFIO_B9p (io), 48 IO, DIFFIO_B9n (io), 49 IO (io), 50 IO, DIFFIO_B10p (io), 51 IO, DIFFIO_B10n (io)
part B pins: 52 IO (io), 53 IO, DIFFIO_R7n (io), 54 IO, DIFFIO_R7p (io), 55 IO, DIFFIO_R6n (io), 56 IO, DIFFIO_R6p (io), 57 IO, DIFFIO_R5n (io), 58 IO, DIFFIO_R5p (io), 61 IO (io), 62 IO, CLK2 (io), 64 IO, CLK3 (io), 66 IO, DIFFIO_R4n (io), 67 IO, DIFFIO_R4p (io), 68 IO, DIFFIO_R3n (io), 69 IO, DIFFIO_R3p (io), 70 IO (io), 71 IO, DIFFIO_R2n (io), 72 IO, DIFFIO_R2p (io), 73 IO, DIFFIO_R1n (io), 74 IO, DIFFIO_R1p (io), 75 IO, DIFFIO_T10n (io), 76 IO, DIFFIO_T10p (io), 77 IO, DIFFIO_T9n (io), 78 IO, DIFFIO_T9p (io), 81 IO, DIFFIO_T8n (io), 82 IO, DIFFIO_T8p (io), 83 IO, DIFFIO_T7n (io), 84 IO, DIFFIO_T7p (io), 85 IO, DIFFIO_T6n (io), 86 IO, DIFFIO_T6p (io), 87 IO, DIFFIO_T5n (io), 88 IO, DIFFIO_T5p (io), 89 IO, DIFFIO_T4n (io), 90 IO, DIFFIO_T4p (io), 91 IO (io), 92 IO, DIFFIO_T3n (io), 95 IO, DIFFIO_T3p (io), 96 IO, DIFFIO_T2n (io), 97 IO, DIFFIO_T2p (io), 98 IO, DIFFIO_T1n (io), 99 IO, DIFFIO_T1p (io), 100 IO (io)
part C pins: 22 TMS (in), 23 TDI (in), 24 TCK (in), 25 TDO (out)
part D pins: 1 GND (power), 9 VCCIO1 (power), 10 GND (power), 11 GND (power), 13 VCCINT (power), 31 VCCIO1 (power), 32 GND (power), 45 VCCIO1 (power), 46 GND (power), 59 VCCIO2 (power), 60 GND (power), 63 VCCINT (power), 65 GND (power), 79 GND (power), 80 VCCIO2 (power), 93 GND (power), 94 VCCIO2 (power)
part A text: BANK 1
part B text: BANK 2